# Altium integrated library Cypress Memory Static RAM.IntLib: 171 symbols (part 3 of 7)
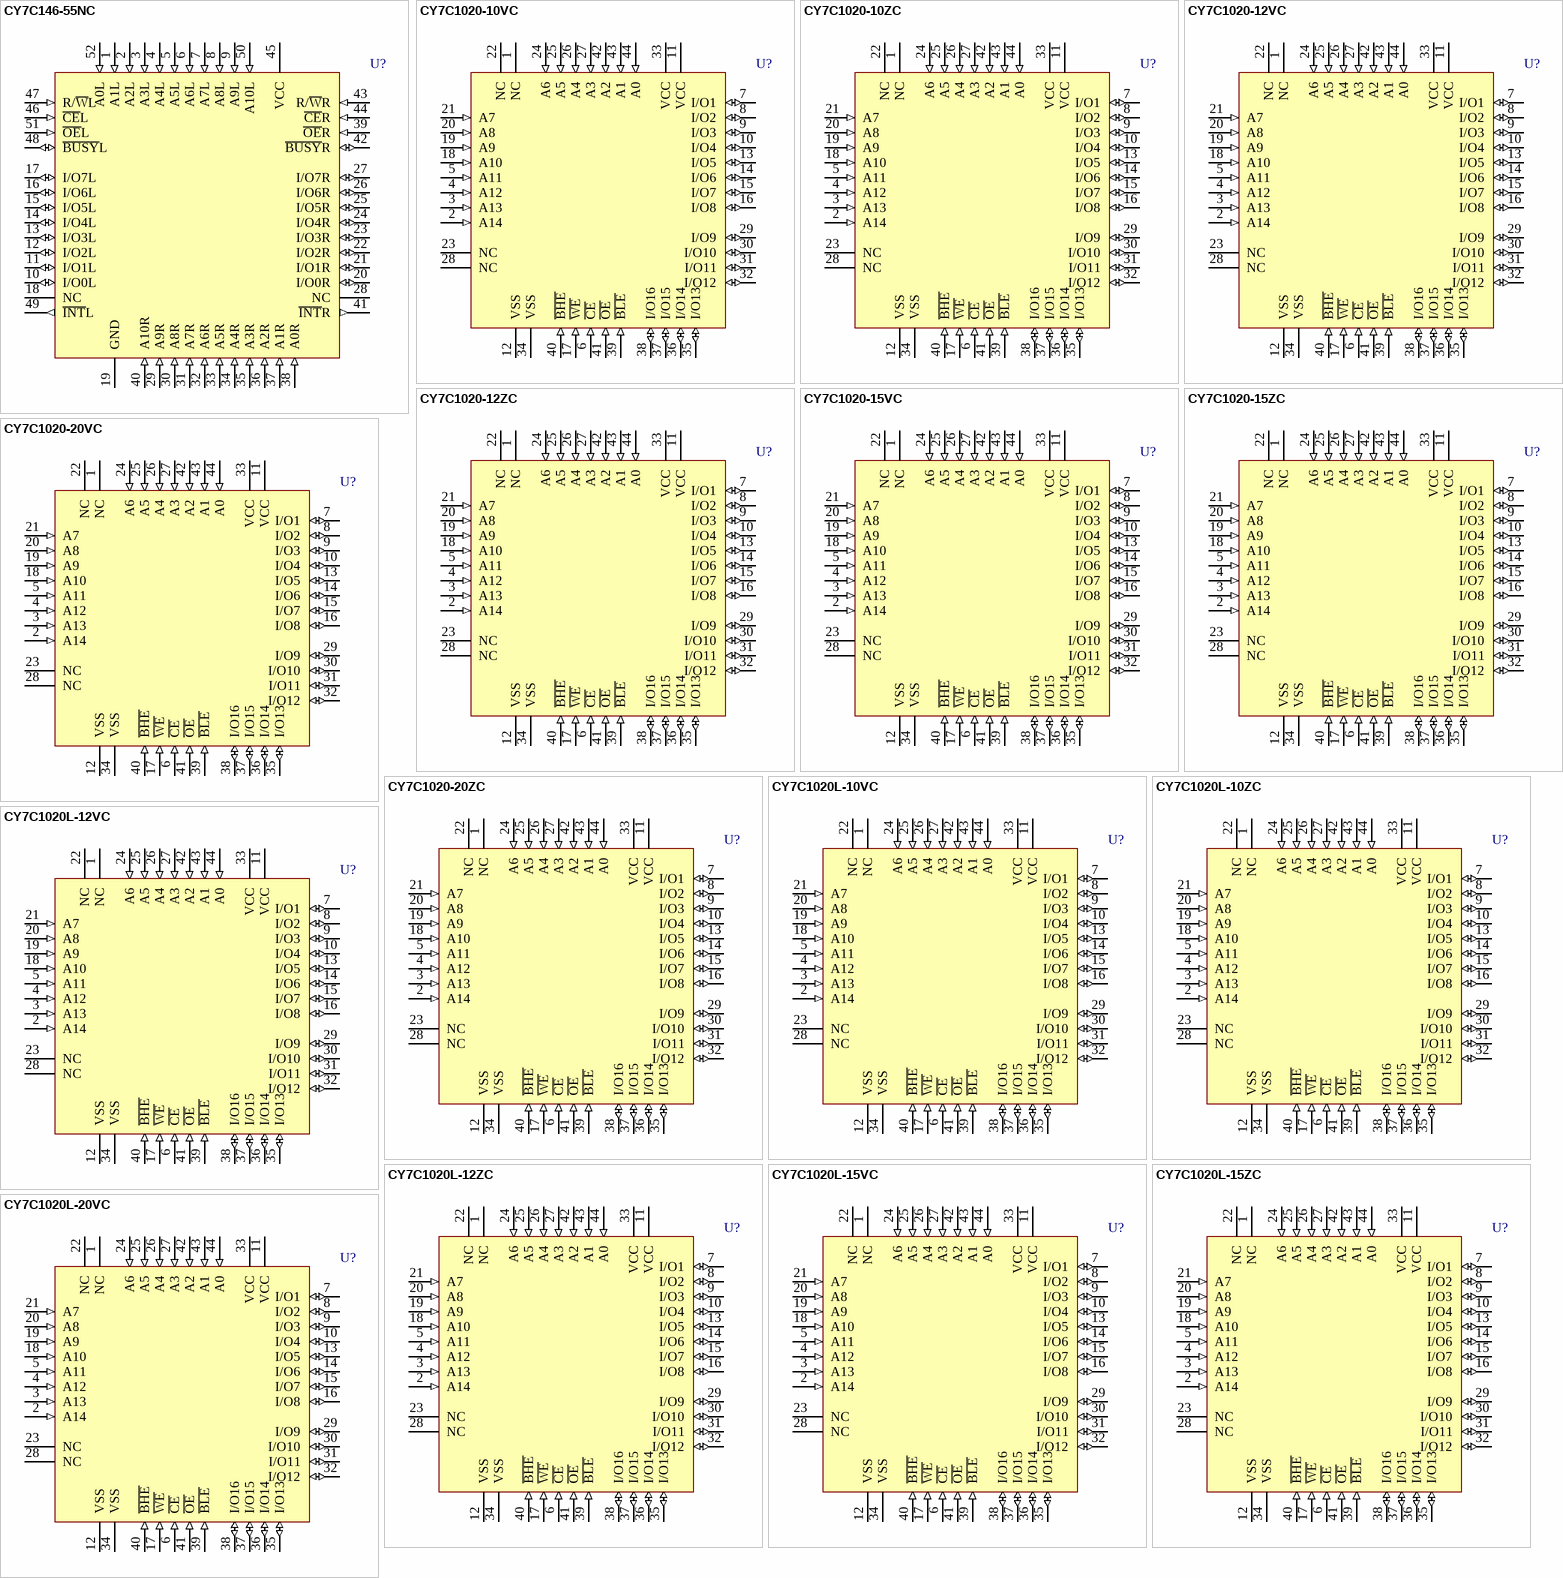
[diagram p27: symbols CY7C146-55NC to CY7C1020L-20VC]

## CY7C1020L-10ZC
designator U?
32K x 16 Static RAM; Published: 11-Dec-2002; LatestRevisionDate: 13-Apr-2006; LatestRevisionNote: IPC-7351 Footprint Added.; DatasheetVersion: 18-Oct-1999; PackageVersion: Oct-1999; PackageReference: Z44; Publisher: Altium Limited; PackageDescription: 44-Pin Small Outline Package 0.8 mm Pitch; ComponentLink1Description: Manufacturer Link; ComponentLink1URL: http://www.cypress.com/; ComponentLink2Description: Datasheet; ComponentLink2URL: http://www.cypress.com/portal/server.pt/gateway/PTARGS_0_2_1524_209_259_43/http%3B/sjapp20.mis.cypress.com%3B7001/publishedcontent/publish/design_resources/datasheets/contents/cy7c1020_5.pdf
footprint Z44_N (SOP, 44-Leads, Body 18.4x10.16mm, Pitch 0.8mm, IPC Medium Density)
footprint Z44_L (SOP, 44-Leads, Body 18.4x10.16mm, Pitch 0.8mm, IPC High Density)
footprint Z44_M (SOP, 44-Leads, Body 18.4x10.16mm, Pitch 0.8mm, IPC Low Density)
3D model Z44 (44-Pin Small Outline Package 0.8 mm Pitch)
pins: 1 NC, 2 A14 (in), 3 A13 (in), 4 A12 (in), 5 A11 (in), 6 ~{CE} (in), 7 I/O1 (io), 8 I/O2 (io), 9 I/O3 (io), 10 I/O4 (io), 11 VCC (power), 12 VSS (power), 13 I/O5 (io), 14 I/O6 (io), 15 I/O7 (io), 16 I/O8 (io), 17 ~{WE} (in), 18 A10 (in), 19 A9 (in), 20 A8 (in), 21 A7 (in), 22 NC, 23 NC, 24 A6 (in), 25 A5 (in), 26 A4 (in), 27 A3 (in), 28 NC, 29 I/O9 (io), 30 I/O10 (io), 31 I/O11 (io), 32 I/O12 (io), 33 VCC (power), 34 VSS (power), 35 I/O13 (io), 36 I/O14 (io), 37 I/O15 (io), 38 I/O16 (io), 39 ~{BLE} (in), 40 ~{BHE} (in), 41 ~{OE} (in), 42 A2 (in), 43 A1 (in), 44 A0 (in)

## CY7C1020L-12VC
designator U?
32K x 16 Static RAM; Published: 11-Dec-2002; LatestRevisionDate: 04-Mar-2005; LatestRevisionNote: Stylized 3D Model Added.; DatasheetVersion: 18-Oct-1999; PackageVersion: Oct-1999; PackageReference: V34; Publisher: Altium Limited; PackageDescription: SOJ, Molded; 44 Leads; Body Width 10.16 mm; Code_JEDEC: MS-027-AH; ComponentLink1Description: Manufacturer Link; ComponentLink1URL: http://www.cypress.com/; ComponentLink2Description: Datasheet; ComponentLink2URL: http://www.cypress.com/portal/server.pt/gateway/PTARGS_0_2_1524_209_259_43/http%3B/sjapp20.mis.cypress.com%3B7001/publishedcontent/publish/design_resources/datasheets/contents/cy7c1020_5.pdf
footprint V34 (SOJ, Molded; 44 Leads; Body Width 10.16 mm)
3D model V34 (SOJ, Molded; 44 Leads; Body Width 10.16 mm)
pins: 1 NC, 2 A14 (in), 3 A13 (in), 4 A12 (in), 5 A11 (in), 6 ~{CE} (in), 7 I/O1 (io), 8 I/O2 (io), 9 I/O3 (io), 10 I/O4 (io), 11 VCC (power), 12 VSS (power), 13 I/O5 (io), 14 I/O6 (io), 15 I/O7 (io), 16 I/O8 (io), 17 ~{WE} (in), 18 A10 (in), 19 A9 (in), 20 A8 (in), 21 A7 (in), 22 NC, 23 NC, 24 A6 (in), 25 A5 (in), 26 A4 (in), 27 A3 (in), 28 NC, 29 I/O9 (io), 30 I/O10 (io), 31 I/O11 (io), 32 I/O12 (io), 33 VCC (power), 34 VSS (power), 35 I/O13 (io), 36 I/O14 (io), 37 I/O15 (io), 38 I/O16 (io), 39 ~{BLE} (in), 40 ~{BHE} (in), 41 ~{OE} (in), 42 A2 (in), 43 A1 (in), 44 A0 (in)

## CY7C1020L-12ZC
designator U?
32K x 16 Static RAM; Published: 11-Dec-2002; LatestRevisionDate: 13-Apr-2006; LatestRevisionNote: IPC-7351 Footprint Added.; DatasheetVersion: 18-Oct-1999; PackageVersion: Oct-1999; PackageReference: Z44; Publisher: Altium Limited; PackageDescription: 44-Pin Small Outline Package 0.8 mm Pitch; ComponentLink1Description: Manufacturer Link; ComponentLink1URL: http://www.cypress.com/; ComponentLink2Description: Datasheet; ComponentLink2URL: http://www.cypress.com/portal/server.pt/gateway/PTARGS_0_2_1524_209_259_43/http%3B/sjapp20.mis.cypress.com%3B7001/publishedcontent/publish/design_resources/datasheets/contents/cy7c1020_5.pdf
footprint Z44_N (SOP, 44-Leads, Body 18.4x10.16mm, Pitch 0.8mm, IPC Medium Density)
footprint Z44_L (SOP, 44-Leads, Body 18.4x10.16mm, Pitch 0.8mm, IPC High Density)
footprint Z44_M (SOP, 44-Leads, Body 18.4x10.16mm, Pitch 0.8mm, IPC Low Density)
3D model Z44 (44-Pin Small Outline Package 0.8 mm Pitch)
pins: 1 NC, 2 A14 (in), 3 A13 (in), 4 A12 (in), 5 A11 (in), 6 ~{CE} (in), 7 I/O1 (io), 8 I/O2 (io), 9 I/O3 (io), 10 I/O4 (io), 11 VCC (power), 12 VSS (power), 13 I/O5 (io), 14 I/O6 (io), 15 I/O7 (io), 16 I/O8 (io), 17 ~{WE} (in), 18 A10 (in), 19 A9 (in), 20 A8 (in), 21 A7 (in), 22 NC, 23 NC, 24 A6 (in), 25 A5 (in), 26 A4 (in), 27 A3 (in), 28 NC, 29 I/O9 (io), 30 I/O10 (io), 31 I/O11 (io), 32 I/O12 (io), 33 VCC (power), 34 VSS (power), 35 I/O13 (io), 36 I/O14 (io), 37 I/O15 (io), 38 I/O16 (io), 39 ~{BLE} (in), 40 ~{BHE} (in), 41 ~{OE} (in), 42 A2 (in), 43 A1 (in), 44 A0 (in)

## CY7C1020L-15VC
designator U?
32K x 16 Static RAM; Published: 11-Dec-2002; LatestRevisionDate: 04-Mar-2005; LatestRevisionNote: Stylized 3D Model Added.; DatasheetVersion: 18-Oct-1999; PackageVersion: Oct-1999; PackageReference: V34; Publisher: Altium Limited; PackageDescription: SOJ, Molded; 44 Leads; Body Width 10.16 mm; Code_JEDEC: MS-027-AH; ComponentLink1Description: Manufacturer Link; ComponentLink1URL: http://www.cypress.com/; ComponentLink2Description: Datasheet; ComponentLink2URL: http://www.cypress.com/portal/server.pt/gateway/PTARGS_0_2_1524_209_259_43/http%3B/sjapp20.mis.cypress.com%3B7001/publishedcontent/publish/design_resources/datasheets/contents/cy7c1020_5.pdf
footprint V34 (SOJ, Molded; 44 Leads; Body Width 10.16 mm)
3D model V34 (SOJ, Molded; 44 Leads; Body Width 10.16 mm)
pins: 1 NC, 2 A14 (in), 3 A13 (in), 4 A12 (in), 5 A11 (in), 6 ~{CE} (in), 7 I/O1 (io), 8 I/O2 (io), 9 I/O3 (io), 10 I/O4 (io), 11 VCC (power), 12 VSS (power), 13 I/O5 (io), 14 I/O6 (io), 15 I/O7 (io), 16 I/O8 (io), 17 ~{WE} (in), 18 A10 (in), 19 A9 (in), 20 A8 (in), 21 A7 (in), 22 NC, 23 NC, 24 A6 (in), 25 A5 (in), 26 A4 (in), 27 A3 (in), 28 NC, 29 I/O9 (io), 30 I/O10 (io), 31 I/O11 (io), 32 I/O12 (io), 33 VCC (power), 34 VSS (power), 35 I/O13 (io), 36 I/O14 (io), 37 I/O15 (io), 38 I/O16 (io), 39 ~{BLE} (in), 40 ~{BHE} (in), 41 ~{OE} (in), 42 A2 (in), 43 A1 (in), 44 A0 (in)

## CY7C1020L-15ZC
designator U?
32K x 16 Static RAM; Published: 11-Dec-2002; LatestRevisionDate: 13-Apr-2006; LatestRevisionNote: IPC-7351 Footprint Added.; DatasheetVersion: 18-Oct-1999; PackageVersion: Oct-1999; PackageReference: Z44; Publisher: Altium Limited; PackageDescription: 44-Pin Small Outline Package 0.8 mm Pitch; ComponentLink1Description: Manufacturer Link; ComponentLink1URL: http://www.cypress.com/; ComponentLink2Description: Datasheet; ComponentLink2URL: http://www.cypress.com/portal/server.pt/gateway/PTARGS_0_2_1524_209_259_43/http%3B/sjapp20.mis.cypress.com%3B7001/publishedcontent/publish/design_resources/datasheets/contents/cy7c1020_5.pdf
footprint Z44_N (SOP, 44-Leads, Body 18.4x10.16mm, Pitch 0.8mm, IPC Medium Density)
footprint Z44_L (SOP, 44-Leads, Body 18.4x10.16mm, Pitch 0.8mm, IPC High Density)
footprint Z44_M (SOP, 44-Leads, Body 18.4x10.16mm, Pitch 0.8mm, IPC Low Density)
3D model Z44 (44-Pin Small Outline Package 0.8 mm Pitch)
pins: 1 NC, 2 A14 (in), 3 A13 (in), 4 A12 (in), 5 A11 (in), 6 ~{CE} (in), 7 I/O1 (io), 8 I/O2 (io), 9 I/O3 (io), 10 I/O4 (io), 11 VCC (power), 12 VSS (power), 13 I/O5 (io), 14 I/O6 (io), 15 I/O7 (io), 16 I/O8 (io), 17 ~{WE} (in), 18 A10 (in), 19 A9 (in), 20 A8 (in), 21 A7 (in), 22 NC, 23 NC, 24 A6 (in), 25 A5 (in), 26 A4 (in), 27 A3 (in), 28 NC, 29 I/O9 (io), 30 I/O10 (io), 31 I/O11 (io), 32 I/O12 (io), 33 VCC (power), 34 VSS (power), 35 I/O13 (io), 36 I/O14 (io), 37 I/O15 (io), 38 I/O16 (io), 39 ~{BLE} (in), 40 ~{BHE} (in), 41 ~{OE} (in), 42 A2 (in), 43 A1 (in), 44 A0 (in)

## CY7C1020L-20VC
designator U?
32K x 16 Static RAM; Published: 11-Dec-2002; LatestRevisionDate: 04-Mar-2005; LatestRevisionNote: Stylized 3D Model Added.; DatasheetVersion: 18-Oct-1999; PackageVersion: Oct-1999; PackageReference: V34; Publisher: Altium Limited; PackageDescription: SOJ, Molded; 44 Leads; Body Width 10.16 mm; Code_JEDEC: MS-027-AH; ComponentLink1Description: Manufacturer Link; ComponentLink1URL: http://www.cypress.com/; ComponentLink2Description: Datasheet; ComponentLink2URL: http://www.cypress.com/portal/server.pt/gateway/PTARGS_0_2_1524_209_259_43/http%3B/sjapp20.mis.cypress.com%3B7001/publishedcontent/publish/design_resources/datasheets/contents/cy7c1020_5.pdf
footprint V34 (SOJ, Molded; 44 Leads; Body Width 10.16 mm)
3D model V34 (SOJ, Molded; 44 Leads; Body Width 10.16 mm)
pins: 1 NC, 2 A14 (in), 3 A13 (in), 4 A12 (in), 5 A11 (in), 6 ~{CE} (in), 7 I/O1 (io), 8 I/O2 (io), 9 I/O3 (io), 10 I/O4 (io), 11 VCC (power), 12 VSS (power), 13 I/O5 (io), 14 I/O6 (io), 15 I/O7 (io), 16 I/O8 (io), 17 ~{WE} (in), 18 A10 (in), 19 A9 (in), 20 A8 (in), 21 A7 (in), 22 NC, 23 NC, 24 A6 (in), 25 A5 (in), 26 A4 (in), 27 A3 (in), 28 NC, 29 I/O9 (io), 30 I/O10 (io), 31 I/O11 (io), 32 I/O12 (io), 33 VCC (power), 34 VSS (power), 35 I/O13 (io), 36 I/O14 (io), 37 I/O15 (io), 38 I/O16 (io), 39 ~{BLE} (in), 40 ~{BHE} (in), 41 ~{OE} (in), 42 A2 (in), 43 A1 (in), 44 A0 (in)

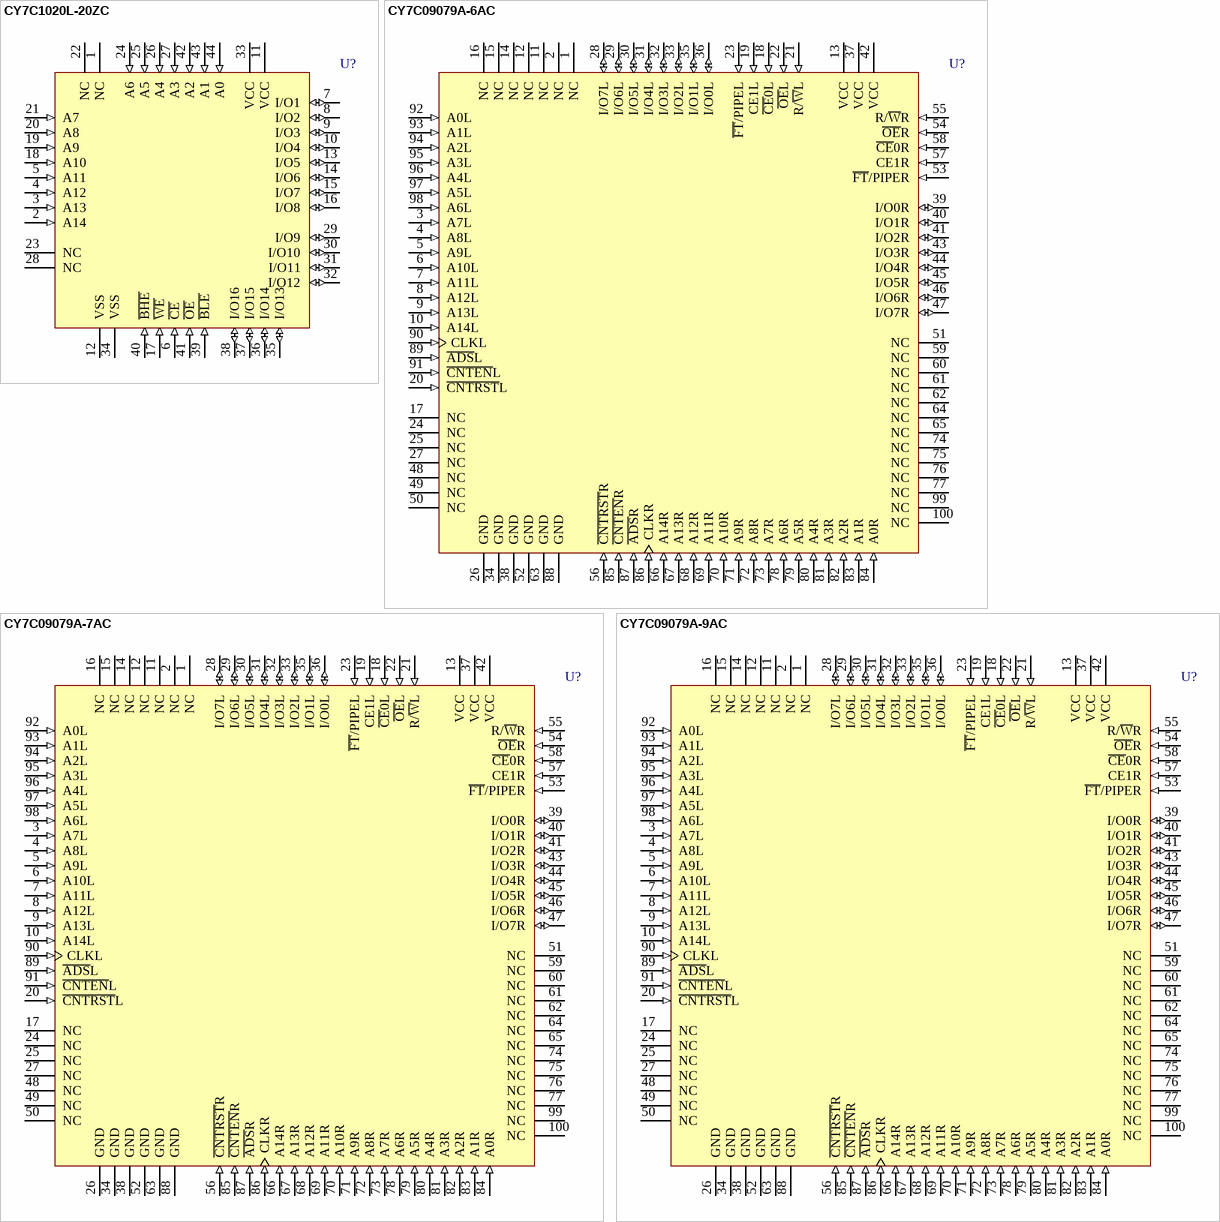
[diagram p7: symbols CY7C1020L-20ZC to CY7C09079A-9AC]

## CY7C1020L-20ZC
designator U?
32K x 16 Static RAM; Published: 11-Dec-2002; LatestRevisionDate: 13-Apr-2006; LatestRevisionNote: IPC-7351 Footprint Added.; DatasheetVersion: 18-Oct-1999; PackageVersion: Oct-1999; PackageReference: Z44; Publisher: Altium Limited; PackageDescription: 44-Pin Small Outline Package 0.8 mm Pitch; ComponentLink1Description: Manufacturer Link; ComponentLink1URL: http://www.cypress.com/; ComponentLink2Description: Datasheet; ComponentLink2URL: http://www.cypress.com/portal/server.pt/gateway/PTARGS_0_2_1524_209_259_43/http%3B/sjapp20.mis.cypress.com%3B7001/publishedcontent/publish/design_resources/datasheets/contents/cy7c1020_5.pdf
footprint Z44_N (SOP, 44-Leads, Body 18.4x10.16mm, Pitch 0.8mm, IPC Medium Density)
footprint Z44_L (SOP, 44-Leads, Body 18.4x10.16mm, Pitch 0.8mm, IPC High Density)
footprint Z44_M (SOP, 44-Leads, Body 18.4x10.16mm, Pitch 0.8mm, IPC Low Density)
3D model Z44 (44-Pin Small Outline Package 0.8 mm Pitch)
pins: 1 NC, 2 A14 (in), 3 A13 (in), 4 A12 (in), 5 A11 (in), 6 ~{CE} (in), 7 I/O1 (io), 8 I/O2 (io), 9 I/O3 (io), 10 I/O4 (io), 11 VCC (power), 12 VSS (power), 13 I/O5 (io), 14 I/O6 (io), 15 I/O7 (io), 16 I/O8 (io), 17 ~{WE} (in), 18 A10 (in), 19 A9 (in), 20 A8 (in), 21 A7 (in), 22 NC, 23 NC, 24 A6 (in), 25 A5 (in), 26 A4 (in), 27 A3 (in), 28 NC, 29 I/O9 (io), 30 I/O10 (io), 31 I/O11 (io), 32 I/O12 (io), 33 VCC (power), 34 VSS (power), 35 I/O13 (io), 36 I/O14 (io), 37 I/O15 (io), 38 I/O16 (io), 39 ~{BLE} (in), 40 ~{BHE} (in), 41 ~{OE} (in), 42 A2 (in), 43 A1 (in), 44 A0 (in)

## CY7C09079A-6AC
designator U?
32K x 8 Synchronous Dual-Port RAM; Published: 11-Dec-2002; LatestRevisionDate: 13-Apr-2006; LatestRevisionNote: IPC-7351 Footprint Added.; DatasheetVersion: 3-Mar-2000; PackageVersion: Mar-2001; PackageReference: A100; Publisher: Altium Limited; PackageDescription: 100-Pin Thin Quad Flat Pack 0.5 mm Pitch; ComponentLink1Description: Manufacturer Link; ComponentLink1URL: http://www.cypress.com/; ComponentLink2Description: Datasheet; ComponentLink2URL: http://www.cypress.com/portal/server.pt/gateway/PTARGS_0_2_1524_209_259_43/http%3B/sjapp20.mis.cypress.com%3B7001/publishedcontent/publish/design_resources/datasheets/contents/cy7c09269a_5.pdf
footprint A100_N (Thin QFP, 100-Leads, Body 14x14mm, Pitch 0.5mm, IPC Medium Density)
footprint A100_L (Thin QFP, 100-Leads, Body 14x14mm, Pitch 0.5mm, IPC High Density)
footprint A100_M (Thin QFP, 100-Leads, Body 14x14mm, Pitch 0.5mm, IPC Low Density)
3D model CY7C09079A-A100 (100-Pin Thin Quad Flat Pack 0.5 mm Pitch)
pins: 1 NC, 2 NC, 3 A7L (in), 4 A8L (in), 5 A9L (in), 6 A10L (in), 7 A11L (in), 8 A12L (in), 9 A13L (in), 10 A14L (in), 11 NC, 12 NC, 13 VCC (power), 14 NC, 15 NC, 16 NC, 17 NC, 18 ~{CE}0L (in), 19 CE1L (in), 20 ~{CNTRST}L (in), 21 R/~{W}L (in), 22 ~{OE}L (in), 23 ~{FT}/PIPEL (in), 24 NC, 25 NC, 26 GND (power), 27 NC, 28 I/O7L (io), 29 I/O6L (io), 30 I/O5L (io), 31 I/O4L (io), 32 I/O3L (io), 33 I/O2L (io), 34 GND (power), 35 I/O1L (io), 36 I/O0L (io), 37 VCC (power), 38 GND (power), 39 I/O0R (io), 40 I/O1R (io), 41 I/O2R (io), 42 VCC (power), 43 I/O3R (io), 44 I/O4R (io), 45 I/O5R (io), 46 I/O6R (io), 47 I/O7R (io), 48 NC, 49 NC, 50 NC, 51 NC, 52 GND (power), 53 ~{FT}/PIPER (in), 54 ~{OE}R (in), 55 R/~{W}R (in), 56 ~{CNTRST}R (in), 57 CE1R (in), 58 ~{CE}0R (in), 59 NC, 60 NC, 61 NC, 62 NC, 63 GND (power), 64 NC, 65 NC, 66 A14R (in), 67 A13R (in), 68 A12R (in), 69 A11R (in), 70 A10R (in), 71 A9R (in), 72 A8R (in), 73 A7R (in), 74 NC, 75 NC, 76 NC, 77 NC, 78 A6R (in), 79 A5R (in), 80 A4R (in), 81 A3R (in), 82 A2R (in), 83 A1R (in), 84 A0R (in), 85 ~{CNTEN}R (in), 86 CLKR (in), 87 ~{ADS}R (in), 88 GND (power), 89 ~{ADS}L (in), 90 CLKL (in), 91 ~{CNTEN}L (in), 92 A0L (in), 93 A1L (in), 94 A2L (in), 95 A3L (in), 96 A4L (in), 97 A5L (in), 98 A6L (in), 99 NC, 100 NC

## CY7C09079A-7AC
designator U?
32K x 8 Synchronous Dual-Port RAM; Published: 11-Dec-2002; LatestRevisionDate: 13-Apr-2006; LatestRevisionNote: IPC-7351 Footprint Added.; DatasheetVersion: 3-Mar-2000; PackageVersion: Mar-2001; PackageReference: A100; Publisher: Altium Limited; PackageDescription: 100-Pin Thin Quad Flat Pack 0.5 mm Pitch; ComponentLink1Description: Manufacturer Link; ComponentLink1URL: http://www.cypress.com/; ComponentLink2Description: Datasheet; ComponentLink2URL: http://www.cypress.com/portal/server.pt/gateway/PTARGS_0_2_1524_209_259_43/http%3B/sjapp20.mis.cypress.com%3B7001/publishedcontent/publish/design_resources/datasheets/contents/cy7c09269a_5.pdf
footprint A100_N (Thin QFP, 100-Leads, Body 14x14mm, Pitch 0.5mm, IPC Medium Density)
footprint A100_L (Thin QFP, 100-Leads, Body 14x14mm, Pitch 0.5mm, IPC High Density)
footprint A100_M (Thin QFP, 100-Leads, Body 14x14mm, Pitch 0.5mm, IPC Low Density)
3D model CY7C09079A-A100 (100-Pin Thin Quad Flat Pack 0.5 mm Pitch)
pins: 1 NC, 2 NC, 3 A7L (in), 4 A8L (in), 5 A9L (in), 6 A10L (in), 7 A11L (in), 8 A12L (in), 9 A13L (in), 10 A14L (in), 11 NC, 12 NC, 13 VCC (power), 14 NC, 15 NC, 16 NC, 17 NC, 18 ~{CE}0L (in), 19 CE1L (in), 20 ~{CNTRST}L (in), 21 R/~{W}L (in), 22 ~{OE}L (in), 23 ~{FT}/PIPEL (in), 24 NC, 25 NC, 26 GND (power), 27 NC, 28 I/O7L (io), 29 I/O6L (io), 30 I/O5L (io), 31 I/O4L (io), 32 I/O3L (io), 33 I/O2L (io), 34 GND (power), 35 I/O1L (io), 36 I/O0L (io), 37 VCC (power), 38 GND (power), 39 I/O0R (io), 40 I/O1R (io), 41 I/O2R (io), 42 VCC (power), 43 I/O3R (io), 44 I/O4R (io), 45 I/O5R (io), 46 I/O6R (io), 47 I/O7R (io), 48 NC, 49 NC, 50 NC, 51 NC, 52 GND (power), 53 ~{FT}/PIPER (in), 54 ~{OE}R (in), 55 R/~{W}R (in), 56 ~{CNTRST}R (in), 57 CE1R (in), 58 ~{CE}0R (in), 59 NC, 60 NC, 61 NC, 62 NC, 63 GND (power), 64 NC, 65 NC, 66 A14R (in), 67 A13R (in), 68 A12R (in), 69 A11R (in), 70 A10R (in), 71 A9R (in), 72 A8R (in), 73 A7R (in), 74 NC, 75 NC, 76 NC, 77 NC, 78 A6R (in), 79 A5R (in), 80 A4R (in), 81 A3R (in), 82 A2R (in), 83 A1R (in), 84 A0R (in), 85 ~{CNTEN}R (in), 86 CLKR (in), 87 ~{ADS}R (in), 88 GND (power), 89 ~{ADS}L (in), 90 CLKL (in), 91 ~{CNTEN}L (in), 92 A0L (in), 93 A1L (in), 94 A2L (in), 95 A3L (in), 96 A4L (in), 97 A5L (in), 98 A6L (in), 99 NC, 100 NC

## CY7C09079A-9AC
designator U?
32K x 8 Synchronous Dual-Port RAM; Published: 11-Dec-2002; LatestRevisionDate: 13-Apr-2006; LatestRevisionNote: IPC-7351 Footprint Added.; DatasheetVersion: 3-Mar-2000; PackageVersion: Mar-2001; PackageReference: A100; Publisher: Altium Limited; PackageDescription: 100-Pin Thin Quad Flat Pack 0.5 mm Pitch; ComponentLink1Description: Manufacturer Link; ComponentLink1URL: http://www.cypress.com/; ComponentLink2Description: Datasheet; ComponentLink2URL: http://www.cypress.com/portal/server.pt/gateway/PTARGS_0_2_1524_209_259_43/http%3B/sjapp20.mis.cypress.com%3B7001/publishedcontent/publish/design_resources/datasheets/contents/cy7c09269a_5.pdf
footprint A100_N (Thin QFP, 100-Leads, Body 14x14mm, Pitch 0.5mm, IPC Medium Density)
footprint A100_L (Thin QFP, 100-Leads, Body 14x14mm, Pitch 0.5mm, IPC High Density)
footprint A100_M (Thin QFP, 100-Leads, Body 14x14mm, Pitch 0.5mm, IPC Low Density)
3D model CY7C09079A-A100 (100-Pin Thin Quad Flat Pack 0.5 mm Pitch)
pins: 1 NC, 2 NC, 3 A7L (in), 4 A8L (in), 5 A9L (in), 6 A10L (in), 7 A11L (in), 8 A12L (in), 9 A13L (in), 10 A14L (in), 11 NC, 12 NC, 13 VCC (power), 14 NC, 15 NC, 16 NC, 17 NC, 18 ~{CE}0L (in), 19 CE1L (in), 20 ~{CNTRST}L (in), 21 R/~{W}L (in), 22 ~{OE}L (in), 23 ~{FT}/PIPEL (in), 24 NC, 25 NC, 26 GND (power), 27 NC, 28 I/O7L (io), 29 I/O6L (io), 30 I/O5L (io), 31 I/O4L (io), 32 I/O3L (io), 33 I/O2L (io), 34 GND (power), 35 I/O1L (io), 36 I/O0L (io), 37 VCC (power), 38 GND (power), 39 I/O0R (io), 40 I/O1R (io), 41 I/O2R (io), 42 VCC (power), 43 I/O3R (io), 44 I/O4R (io), 45 I/O5R (io), 46 I/O6R (io), 47 I/O7R (io), 48 NC, 49 NC, 50 NC, 51 NC, 52 GND (power), 53 ~{FT}/PIPER (in), 54 ~{OE}R (in), 55 R/~{W}R (in), 56 ~{CNTRST}R (in), 57 CE1R (in), 58 ~{CE}0R (in), 59 NC, 60 NC, 61 NC, 62 NC, 63 GND (power), 64 NC, 65 NC, 66 A14R (in), 67 A13R (in), 68 A12R (in), 69 A11R (in), 70 A10R (in), 71 A9R (in), 72 A8R (in), 73 A7R (in), 74 NC, 75 NC, 76 NC, 77 NC, 78 A6R (in), 79 A5R (in), 80 A4R (in), 81 A3R (in), 82 A2R (in), 83 A1R (in), 84 A0R (in), 85 ~{CNTEN}R (in), 86 CLKR (in), 87 ~{ADS}R (in), 88 GND (power), 89 ~{ADS}L (in), 90 CLKL (in), 91 ~{CNTEN}L (in), 92 A0L (in), 93 A1L (in), 94 A2L (in), 95 A3L (in), 96 A4L (in), 97 A5L (in), 98 A6L (in), 99 NC, 100 NC

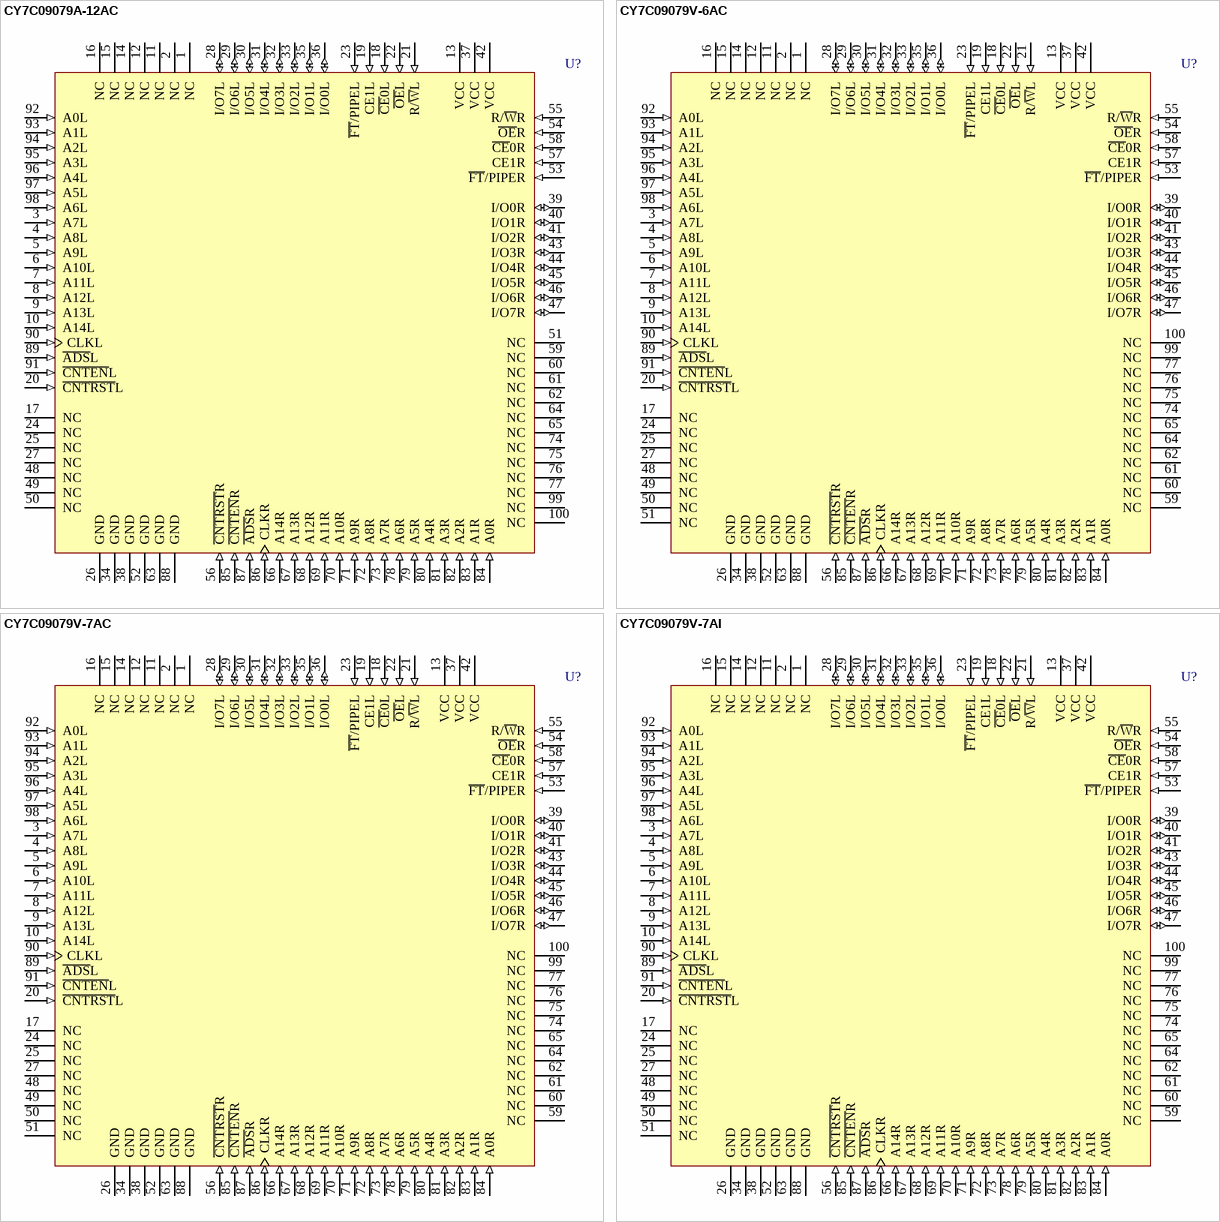
[diagram p8: symbols CY7C09079A-12AC to CY7C09079V-7AI]

## CY7C09079A-12AC
designator U?
32K x 8 Synchronous Dual-Port RAM; Published: 11-Dec-2002; LatestRevisionDate: 13-Apr-2006; LatestRevisionNote: IPC-7351 Footprint Added.; DatasheetVersion: 3-Mar-2000; PackageVersion: Mar-2001; PackageReference: A100; Publisher: Altium Limited; PackageDescription: 100-Pin Thin Quad Flat Pack 0.5 mm Pitch; ComponentLink1Description: Manufacturer Link; ComponentLink1URL: http://www.cypress.com/; ComponentLink2Description: Datasheet; ComponentLink2URL: http://www.cypress.com/portal/server.pt/gateway/PTARGS_0_2_1524_209_259_43/http%3B/sjapp20.mis.cypress.com%3B7001/publishedcontent/publish/design_resources/datasheets/contents/cy7c09269a_5.pdf
footprint A100_N (Thin QFP, 100-Leads, Body 14x14mm, Pitch 0.5mm, IPC Medium Density)
footprint A100_L (Thin QFP, 100-Leads, Body 14x14mm, Pitch 0.5mm, IPC High Density)
footprint A100_M (Thin QFP, 100-Leads, Body 14x14mm, Pitch 0.5mm, IPC Low Density)
3D model CY7C09079A-A100 (100-Pin Thin Quad Flat Pack 0.5 mm Pitch)
pins: 1 NC, 2 NC, 3 A7L (in), 4 A8L (in), 5 A9L (in), 6 A10L (in), 7 A11L (in), 8 A12L (in), 9 A13L (in), 10 A14L (in), 11 NC, 12 NC, 13 VCC (power), 14 NC, 15 NC, 16 NC, 17 NC, 18 ~{CE}0L (in), 19 CE1L (in), 20 ~{CNTRST}L (in), 21 R/~{W}L (in), 22 ~{OE}L (in), 23 ~{FT}/PIPEL (in), 24 NC, 25 NC, 26 GND (power), 27 NC, 28 I/O7L (io), 29 I/O6L (io), 30 I/O5L (io), 31 I/O4L (io), 32 I/O3L (io), 33 I/O2L (io), 34 GND (power), 35 I/O1L (io), 36 I/O0L (io), 37 VCC (power), 38 GND (power), 39 I/O0R (io), 40 I/O1R (io), 41 I/O2R (io), 42 VCC (power), 43 I/O3R (io), 44 I/O4R (io), 45 I/O5R (io), 46 I/O6R (io), 47 I/O7R (io), 48 NC, 49 NC, 50 NC, 51 NC, 52 GND (power), 53 ~{FT}/PIPER (in), 54 ~{OE}R (in), 55 R/~{W}R (in), 56 ~{CNTRST}R (in), 57 CE1R (in), 58 ~{CE}0R (in), 59 NC, 60 NC, 61 NC, 62 NC, 63 GND (power), 64 NC, 65 NC, 66 A14R (in), 67 A13R (in), 68 A12R (in), 69 A11R (in), 70 A10R (in), 71 A9R (in), 72 A8R (in), 73 A7R (in), 74 NC, 75 NC, 76 NC, 77 NC, 78 A6R (in), 79 A5R (in), 80 A4R (in), 81 A3R (in), 82 A2R (in), 83 A1R (in), 84 A0R (in), 85 ~{CNTEN}R (in), 86 CLKR (in), 87 ~{ADS}R (in), 88 GND (power), 89 ~{ADS}L (in), 90 CLKL (in), 91 ~{CNTEN}L (in), 92 A0L (in), 93 A1L (in), 94 A2L (in), 95 A3L (in), 96 A4L (in), 97 A5L (in), 98 A6L (in), 99 NC, 100 NC

## CY7C09079V-6AC
designator U?
3.3V 32K x 8 Synchronous Dual-Port Static RAM; Published: 11-Dec-2002; LatestRevisionDate: 13-Apr-2006; LatestRevisionNote: IPC-7351 Footprint Added.; DatasheetVersion: 2-Feb-2001; PackageVersion: Mar-2001; PackageReference: A100; Publisher: Altium Limited; PackageDescription: 100-Pin Thin Quad Flat Pack 0.5 mm Pitch; ComponentLink1Description: Manufacturer Link; ComponentLink1URL: http://www.cypress.com/; ComponentLink2Description: Datasheet; ComponentLink2URL: http://www.cypress.com/portal/server.pt/gateway/PTARGS_0_2_1524_209_259_43/http%3B/sjapp20.mis.cypress.com%3B7001/publishedcontent/publish/design_resources/datasheets/contents/cy7c09079v_5.pdf
footprint A100_N (Thin QFP, 100-Leads, Body 14x14mm, Pitch 0.5mm, IPC Medium Density)
footprint A100_L (Thin QFP, 100-Leads, Body 14x14mm, Pitch 0.5mm, IPC High Density)
footprint A100_M (Thin QFP, 100-Leads, Body 14x14mm, Pitch 0.5mm, IPC Low Density)
3D model CY7C09079V-A100 (100-Pin Thin Quad Flat Pack 0.5 mm Pitch)
pins: 1 NC, 2 NC, 3 A7L (in), 4 A8L (in), 5 A9L (in), 6 A10L (in), 7 A11L (in), 8 A12L (in), 9 A13L (in), 10 A14L (in), 11 NC, 12 NC, 13 VCC (power), 14 NC, 15 NC, 16 NC, 17 NC, 18 ~{CE}0L (in), 19 CE1L (in), 20 ~{CNTRST}L (in), 21 R/~{W}L (in), 22 ~{OE}L (in), 23 ~{FT}/PIPEL (in), 24 NC, 25 NC, 26 GND (power), 27 NC, 28 I/O7L (io), 29 I/O6L (io), 30 I/O5L (io), 31 I/O4L (io), 32 I/O3L (io), 33 I/O2L (io), 34 GND (power), 35 I/O1L (io), 36 I/O0L (io), 37 VCC (power), 38 GND (power), 39 I/O0R (io), 40 I/O1R (io), 41 I/O2R (io), 42 VCC (power), 43 I/O3R (io), 44 I/O4R (io), 45 I/O5R (io), 46 I/O6R (io), 47 I/O7R (io), 48 NC, 49 NC, 50 NC, 51 NC, 52 GND (power), 53 ~{FT}/PIPER (in), 54 ~{OE}R (in), 55 R/~{W}R (in), 56 ~{CNTRST}R (in), 57 CE1R (in), 58 ~{CE}0R (in), 59 NC, 60 NC, 61 NC, 62 NC, 63 GND (power), 64 NC, 65 NC, 66 A14R (in), 67 A13R (in), 68 A12R (in), 69 A11R (in), 70 A10R (in), 71 A9R (in), 72 A8R (in), 73 A7R (in), 74 NC, 75 NC, 76 NC, 77 NC, 78 A6R (in), 79 A5R (in), 80 A4R (in), 81 A3R (in), 82 A2R (in), 83 A1R (in), 84 A0R (in), 85 ~{CNTEN}R (in), 86 CLKR (in), 87 ~{ADS}R (in), 88 GND (power), 89 ~{ADS}L (in), 90 CLKL (in), 91 ~{CNTEN}L (in), 92 A0L (in), 93 A1L (in), 94 A2L (in), 95 A3L (in), 96 A4L (in), 97 A5L (in), 98 A6L (in), 99 NC, 100 NC

## CY7C09079V-7AC
designator U?
3.3V 32K x 8 Synchronous Dual-Port Static RAM; Published: 11-Dec-2002; LatestRevisionDate: 13-Apr-2006; LatestRevisionNote: IPC-7351 Footprint Added.; DatasheetVersion: 2-Feb-2001; PackageVersion: Mar-2001; PackageReference: A100; Publisher: Altium Limited; PackageDescription: 100-Pin Thin Quad Flat Pack 0.5 mm Pitch; ComponentLink1Description: Manufacturer Link; ComponentLink1URL: http://www.cypress.com/; ComponentLink2Description: Datasheet; ComponentLink2URL: http://www.cypress.com/portal/server.pt/gateway/PTARGS_0_2_1524_209_259_43/http%3B/sjapp20.mis.cypress.com%3B7001/publishedcontent/publish/design_resources/datasheets/contents/cy7c09079v_5.pdf
footprint A100_N (Thin QFP, 100-Leads, Body 14x14mm, Pitch 0.5mm, IPC Medium Density)
footprint A100_L (Thin QFP, 100-Leads, Body 14x14mm, Pitch 0.5mm, IPC High Density)
footprint A100_M (Thin QFP, 100-Leads, Body 14x14mm, Pitch 0.5mm, IPC Low Density)
3D model CY7C09079V-A100 (100-Pin Thin Quad Flat Pack 0.5 mm Pitch)
pins: 1 NC, 2 NC, 3 A7L (in), 4 A8L (in), 5 A9L (in), 6 A10L (in), 7 A11L (in), 8 A12L (in), 9 A13L (in), 10 A14L (in), 11 NC, 12 NC, 13 VCC (power), 14 NC, 15 NC, 16 NC, 17 NC, 18 ~{CE}0L (in), 19 CE1L (in), 20 ~{CNTRST}L (in), 21 R/~{W}L (in), 22 ~{OE}L (in), 23 ~{FT}/PIPEL (in), 24 NC, 25 NC, 26 GND (power), 27 NC, 28 I/O7L (io), 29 I/O6L (io), 30 I/O5L (io), 31 I/O4L (io), 32 I/O3L (io), 33 I/O2L (io), 34 GND (power), 35 I/O1L (io), 36 I/O0L (io), 37 VCC (power), 38 GND (power), 39 I/O0R (io), 40 I/O1R (io), 41 I/O2R (io), 42 VCC (power), 43 I/O3R (io), 44 I/O4R (io), 45 I/O5R (io), 46 I/O6R (io), 47 I/O7R (io), 48 NC, 49 NC, 50 NC, 51 NC, 52 GND (power), 53 ~{FT}/PIPER (in), 54 ~{OE}R (in), 55 R/~{W}R (in), 56 ~{CNTRST}R (in), 57 CE1R (in), 58 ~{CE}0R (in), 59 NC, 60 NC, 61 NC, 62 NC, 63 GND (power), 64 NC, 65 NC, 66 A14R (in), 67 A13R (in), 68 A12R (in), 69 A11R (in), 70 A10R (in), 71 A9R (in), 72 A8R (in), 73 A7R (in), 74 NC, 75 NC, 76 NC, 77 NC, 78 A6R (in), 79 A5R (in), 80 A4R (in), 81 A3R (in), 82 A2R (in), 83 A1R (in), 84 A0R (in), 85 ~{CNTEN}R (in), 86 CLKR (in), 87 ~{ADS}R (in), 88 GND (power), 89 ~{ADS}L (in), 90 CLKL (in), 91 ~{CNTEN}L (in), 92 A0L (in), 93 A1L (in), 94 A2L (in), 95 A3L (in), 96 A4L (in), 97 A5L (in), 98 A6L (in), 99 NC, 100 NC

## CY7C09079V-7AI
designator U?
3.3V 32K x 8 Synchronous Dual-Port Static RAM; Published: 11-Dec-2002; LatestRevisionDate: 13-Apr-2006; LatestRevisionNote: IPC-7351 Footprint Added.; DatasheetVersion: 2-Feb-2001; PackageVersion: Mar-2001; PackageReference: A100; Publisher: Altium Limited; PackageDescription: 100-Pin Thin Quad Flat Pack 0.5 mm Pitch; ComponentLink1Description: Manufacturer Link; ComponentLink1URL: http://www.cypress.com/; ComponentLink2Description: Datasheet; ComponentLink2URL: http://www.cypress.com/portal/server.pt/gateway/PTARGS_0_2_1524_209_259_43/http%3B/sjapp20.mis.cypress.com%3B7001/publishedcontent/publish/design_resources/datasheets/contents/cy7c09079v_5.pdf
footprint A100_N (Thin QFP, 100-Leads, Body 14x14mm, Pitch 0.5mm, IPC Medium Density)
footprint A100_L (Thin QFP, 100-Leads, Body 14x14mm, Pitch 0.5mm, IPC High Density)
footprint A100_M (Thin QFP, 100-Leads, Body 14x14mm, Pitch 0.5mm, IPC Low Density)
3D model CY7C09079V-A100 (100-Pin Thin Quad Flat Pack 0.5 mm Pitch)
pins: 1 NC, 2 NC, 3 A7L (in), 4 A8L (in), 5 A9L (in), 6 A10L (in), 7 A11L (in), 8 A12L (in), 9 A13L (in), 10 A14L (in), 11 NC, 12 NC, 13 VCC (power), 14 NC, 15 NC, 16 NC, 17 NC, 18 ~{CE}0L (in), 19 CE1L (in), 20 ~{CNTRST}L (in), 21 R/~{W}L (in), 22 ~{OE}L (in), 23 ~{FT}/PIPEL (in), 24 NC, 25 NC, 26 GND (power), 27 NC, 28 I/O7L (io), 29 I/O6L (io), 30 I/O5L (io), 31 I/O4L (io), 32 I/O3L (io), 33 I/O2L (io), 34 GND (power), 35 I/O1L (io), 36 I/O0L (io), 37 VCC (power), 38 GND (power), 39 I/O0R (io), 40 I/O1R (io), 41 I/O2R (io), 42 VCC (power), 43 I/O3R (io), 44 I/O4R (io), 45 I/O5R (io), 46 I/O6R (io), 47 I/O7R (io), 48 NC, 49 NC, 50 NC, 51 NC, 52 GND (power), 53 ~{FT}/PIPER (in), 54 ~{OE}R (in), 55 R/~{W}R (in), 56 ~{CNTRST}R (in), 57 CE1R (in), 58 ~{CE}0R (in), 59 NC, 60 NC, 61 NC, 62 NC, 63 GND (power), 64 NC, 65 NC, 66 A14R (in), 67 A13R (in), 68 A12R (in), 69 A11R (in), 70 A10R (in), 71 A9R (in), 72 A8R (in), 73 A7R (in), 74 NC, 75 NC, 76 NC, 77 NC, 78 A6R (in), 79 A5R (in), 80 A4R (in), 81 A3R (in), 82 A2R (in), 83 A1R (in), 84 A0R (in), 85 ~{CNTEN}R (in), 86 CLKR (in), 87 ~{ADS}R (in), 88 GND (power), 89 ~{ADS}L (in), 90 CLKL (in), 91 ~{CNTEN}L (in), 92 A0L (in), 93 A1L (in), 94 A2L (in), 95 A3L (in), 96 A4L (in), 97 A5L (in), 98 A6L (in), 99 NC, 100 NC

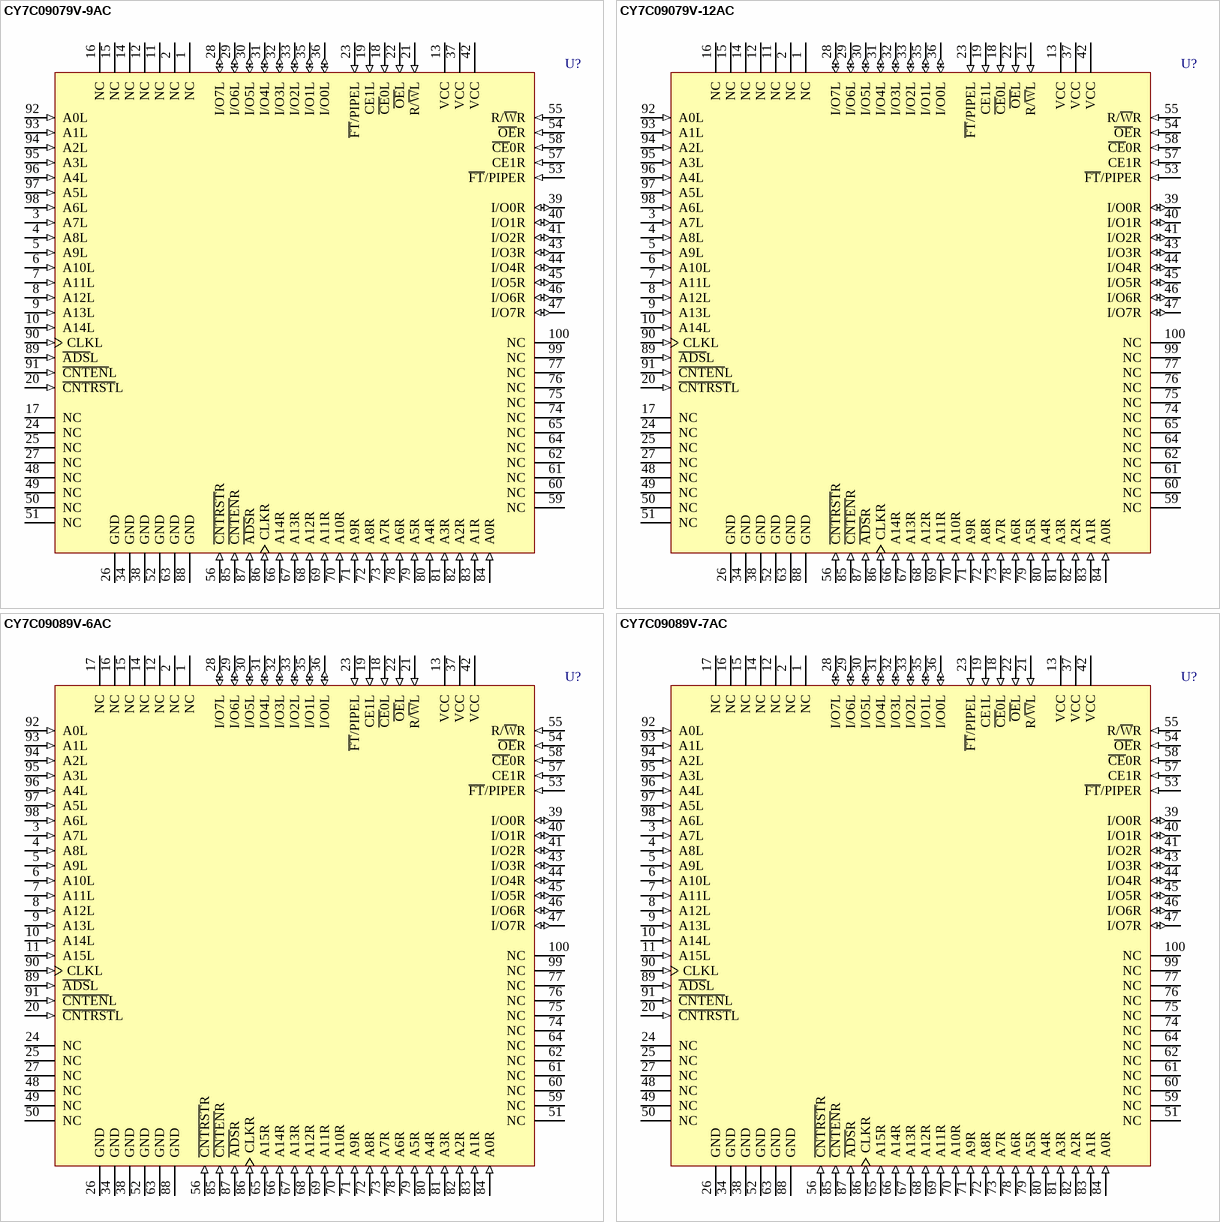
[diagram p9: symbols CY7C09079V-9AC to CY7C09089V-7AC]

## CY7C09079V-9AC
designator U?
3.3V 32K x 8 Synchronous Dual-Port Static RAM; Published: 11-Dec-2002; LatestRevisionDate: 13-Apr-2006; LatestRevisionNote: IPC-7351 Footprint Added.; DatasheetVersion: 2-Feb-2001; PackageVersion: Mar-2001; PackageReference: A100; Publisher: Altium Limited; PackageDescription: 100-Pin Thin Quad Flat Pack 0.5 mm Pitch; ComponentLink1Description: Manufacturer Link; ComponentLink1URL: http://www.cypress.com/; ComponentLink2Description: Datasheet; ComponentLink2URL: http://www.cypress.com/portal/server.pt/gateway/PTARGS_0_2_1524_209_259_43/http%3B/sjapp20.mis.cypress.com%3B7001/publishedcontent/publish/design_resources/datasheets/contents/cy7c09079v_5.pdf
footprint A100_N (Thin QFP, 100-Leads, Body 14x14mm, Pitch 0.5mm, IPC Medium Density)
footprint A100_L (Thin QFP, 100-Leads, Body 14x14mm, Pitch 0.5mm, IPC High Density)
footprint A100_M (Thin QFP, 100-Leads, Body 14x14mm, Pitch 0.5mm, IPC Low Density)
3D model CY7C09079V-A100 (100-Pin Thin Quad Flat Pack 0.5 mm Pitch)
pins: 1 NC, 2 NC, 3 A7L (in), 4 A8L (in), 5 A9L (in), 6 A10L (in), 7 A11L (in), 8 A12L (in), 9 A13L (in), 10 A14L (in), 11 NC, 12 NC, 13 VCC (power), 14 NC, 15 NC, 16 NC, 17 NC, 18 ~{CE}0L (in), 19 CE1L (in), 20 ~{CNTRST}L (in), 21 R/~{W}L (in), 22 ~{OE}L (in), 23 ~{FT}/PIPEL (in), 24 NC, 25 NC, 26 GND (power), 27 NC, 28 I/O7L (io), 29 I/O6L (io), 30 I/O5L (io), 31 I/O4L (io), 32 I/O3L (io), 33 I/O2L (io), 34 GND (power), 35 I/O1L (io), 36 I/O0L (io), 37 VCC (power), 38 GND (power), 39 I/O0R (io), 40 I/O1R (io), 41 I/O2R (io), 42 VCC (power), 43 I/O3R (io), 44 I/O4R (io), 45 I/O5R (io), 46 I/O6R (io), 47 I/O7R (io), 48 NC, 49 NC, 50 NC, 51 NC, 52 GND (power), 53 ~{FT}/PIPER (in), 54 ~{OE}R (in), 55 R/~{W}R (in), 56 ~{CNTRST}R (in), 57 CE1R (in), 58 ~{CE}0R (in), 59 NC, 60 NC, 61 NC, 62 NC, 63 GND (power), 64 NC, 65 NC, 66 A14R (in), 67 A13R (in), 68 A12R (in), 69 A11R (in), 70 A10R (in), 71 A9R (in), 72 A8R (in), 73 A7R (in), 74 NC, 75 NC, 76 NC, 77 NC, 78 A6R (in), 79 A5R (in), 80 A4R (in), 81 A3R (in), 82 A2R (in), 83 A1R (in), 84 A0R (in), 85 ~{CNTEN}R (in), 86 CLKR (in), 87 ~{ADS}R (in), 88 GND (power), 89 ~{ADS}L (in), 90 CLKL (in), 91 ~{CNTEN}L (in), 92 A0L (in), 93 A1L (in), 94 A2L (in), 95 A3L (in), 96 A4L (in), 97 A5L (in), 98 A6L (in), 99 NC, 100 NC

## CY7C09079V-12AC
designator U?
3.3V 32K x 8 Synchronous Dual-Port Static RAM; Published: 11-Dec-2002; LatestRevisionDate: 13-Apr-2006; LatestRevisionNote: IPC-7351 Footprint Added.; DatasheetVersion: 2-Feb-2001; PackageVersion: Mar-2001; PackageReference: A100; Publisher: Altium Limited; PackageDescription: 100-Pin Thin Quad Flat Pack 0.5 mm Pitch; ComponentLink1Description: Manufacturer Link; ComponentLink1URL: http://www.cypress.com/; ComponentLink2Description: Datasheet; ComponentLink2URL: http://www.cypress.com/portal/server.pt/gateway/PTARGS_0_2_1524_209_259_43/http%3B/sjapp20.mis.cypress.com%3B7001/publishedcontent/publish/design_resources/datasheets/contents/cy7c09079v_5.pdf
footprint A100_N (Thin QFP, 100-Leads, Body 14x14mm, Pitch 0.5mm, IPC Medium Density)
footprint A100_L (Thin QFP, 100-Leads, Body 14x14mm, Pitch 0.5mm, IPC High Density)
footprint A100_M (Thin QFP, 100-Leads, Body 14x14mm, Pitch 0.5mm, IPC Low Density)
3D model CY7C09079V-A100 (100-Pin Thin Quad Flat Pack 0.5 mm Pitch)
pins: 1 NC, 2 NC, 3 A7L (in), 4 A8L (in), 5 A9L (in), 6 A10L (in), 7 A11L (in), 8 A12L (in), 9 A13L (in), 10 A14L (in), 11 NC, 12 NC, 13 VCC (power), 14 NC, 15 NC, 16 NC, 17 NC, 18 ~{CE}0L (in), 19 CE1L (in), 20 ~{CNTRST}L (in), 21 R/~{W}L (in), 22 ~{OE}L (in), 23 ~{FT}/PIPEL (in), 24 NC, 25 NC, 26 GND (power), 27 NC, 28 I/O7L (io), 29 I/O6L (io), 30 I/O5L (io), 31 I/O4L (io), 32 I/O3L (io), 33 I/O2L (io), 34 GND (power), 35 I/O1L (io), 36 I/O0L (io), 37 VCC (power), 38 GND (power), 39 I/O0R (io), 40 I/O1R (io), 41 I/O2R (io), 42 VCC (power), 43 I/O3R (io), 44 I/O4R (io), 45 I/O5R (io), 46 I/O6R (io), 47 I/O7R (io), 48 NC, 49 NC, 50 NC, 51 NC, 52 GND (power), 53 ~{FT}/PIPER (in), 54 ~{OE}R (in), 55 R/~{W}R (in), 56 ~{CNTRST}R (in), 57 CE1R (in), 58 ~{CE}0R (in), 59 NC, 60 NC, 61 NC, 62 NC, 63 GND (power), 64 NC, 65 NC, 66 A14R (in), 67 A13R (in), 68 A12R (in), 69 A11R (in), 70 A10R (in), 71 A9R (in), 72 A8R (in), 73 A7R (in), 74 NC, 75 NC, 76 NC, 77 NC, 78 A6R (in), 79 A5R (in), 80 A4R (in), 81 A3R (in), 82 A2R (in), 83 A1R (in), 84 A0R (in), 85 ~{CNTEN}R (in), 86 CLKR (in), 87 ~{ADS}R (in), 88 GND (power), 89 ~{ADS}L (in), 90 CLKL (in), 91 ~{CNTEN}L (in), 92 A0L (in), 93 A1L (in), 94 A2L (in), 95 A3L (in), 96 A4L (in), 97 A5L (in), 98 A6L (in), 99 NC, 100 NC

## CY7C09089V-6AC
designator U?
3.3V 64K x 8 Synchronous Dual-Port Static RAM; Published: 11-Dec-2002; LatestRevisionDate: 13-Apr-2006; LatestRevisionNote: IPC-7351 Footprint Added.; DatasheetVersion: 2-Feb-2001; PackageVersion: Mar-2001; PackageReference: A100; Publisher: Altium Limited; PackageDescription: 100-Pin Thin Quad Flat Pack 0.5 mm Pitch; ComponentLink1Description: Manufacturer Link; ComponentLink1URL: http://www.cypress.com/; ComponentLink2Description: Datasheet; ComponentLink2URL: http://www.cypress.com/portal/server.pt/gateway/PTARGS_0_2_1524_209_259_43/http%3B/sjapp20.mis.cypress.com%3B7001/publishedcontent/publish/design_resources/datasheets/contents/cy7c09079v_5.pdf
footprint A100_N (Thin QFP, 100-Leads, Body 14x14mm, Pitch 0.5mm, IPC Medium Density)
footprint A100_L (Thin QFP, 100-Leads, Body 14x14mm, Pitch 0.5mm, IPC High Density)
footprint A100_M (Thin QFP, 100-Leads, Body 14x14mm, Pitch 0.5mm, IPC Low Density)
3D model CY7C09089V-A100 (100-Pin Thin Quad Flat Pack 0.5 mm Pitch)
pins: 1 NC, 2 NC, 3 A7L (in), 4 A8L (in), 5 A9L (in), 6 A10L (in), 7 A11L (in), 8 A12L (in), 9 A13L (in), 10 A14L (in), 11 A15L (in), 12 NC, 13 VCC (power), 14 NC, 15 NC, 16 NC, 17 NC, 18 ~{CE}0L (in), 19 CE1L (in), 20 ~{CNTRST}L (in), 21 R/~{W}L (in), 22 ~{OE}L (in), 23 ~{FT}/PIPEL (in), 24 NC, 25 NC, 26 GND (power), 27 NC, 28 I/O7L (io), 29 I/O6L (io), 30 I/O5L (io), 31 I/O4L (io), 32 I/O3L (io), 33 I/O2L (io), 34 GND (power), 35 I/O1L (io), 36 I/O0L (io), 37 VCC (power), 38 GND (power), 39 I/O0R (io), 40 I/O1R (io), 41 I/O2R (io), 42 VCC (power), 43 I/O3R (io), 44 I/O4R (io), 45 I/O5R (io), 46 I/O6R (io), 47 I/O7R (io), 48 NC, 49 NC, 50 NC, 51 NC, 52 GND (power), 53 ~{FT}/PIPER (in), 54 ~{OE}R (in), 55 R/~{W}R (in), 56 ~{CNTRST}R (in), 57 CE1R (in), 58 ~{CE}0R (in), 59 NC, 60 NC, 61 NC, 62 NC, 63 GND (power), 64 NC, 65 A15R (in), 66 A14R (in), 67 A13R (in), 68 A12R (in), 69 A11R (in), 70 A10R (in), 71 A9R (in), 72 A8R (in), 73 A7R (in), 74 NC, 75 NC, 76 NC, 77 NC, 78 A6R (in), 79 A5R (in), 80 A4R (in), 81 A3R (in), 82 A2R (in), 83 A1R (in), 84 A0R (in), 85 ~{CNTEN}R (in), 86 CLKR (in), 87 ~{ADS}R (in), 88 GND (power), 89 ~{ADS}L (in), 90 CLKL (in), 91 ~{CNTEN}L (in), 92 A0L (in), 93 A1L (in), 94 A2L (in), 95 A3L (in), 96 A4L (in), 97 A5L (in), 98 A6L (in), 99 NC, 100 NC

## CY7C09089V-7AC
designator U?
3.3V 64K x 8 Synchronous Dual-Port Static RAM; Published: 11-Dec-2002; LatestRevisionDate: 13-Apr-2006; LatestRevisionNote: IPC-7351 Footprint Added.; DatasheetVersion: 2-Feb-2001; PackageVersion: Mar-2001; PackageReference: A100; Publisher: Altium Limited; PackageDescription: 100-Pin Thin Quad Flat Pack 0.5 mm Pitch; ComponentLink1Description: Manufacturer Link; ComponentLink1URL: http://www.cypress.com/; ComponentLink2Description: Datasheet; ComponentLink2URL: http://www.cypress.com/portal/server.pt/gateway/PTARGS_0_2_1524_209_259_43/http%3B/sjapp20.mis.cypress.com%3B7001/publishedcontent/publish/design_resources/datasheets/contents/cy7c09079v_5.pdf
footprint A100_N (Thin QFP, 100-Leads, Body 14x14mm, Pitch 0.5mm, IPC Medium Density)
footprint A100_L (Thin QFP, 100-Leads, Body 14x14mm, Pitch 0.5mm, IPC High Density)
footprint A100_M (Thin QFP, 100-Leads, Body 14x14mm, Pitch 0.5mm, IPC Low Density)
3D model CY7C09089V-A100 (100-Pin Thin Quad Flat Pack 0.5 mm Pitch)
pins: 1 NC, 2 NC, 3 A7L (in), 4 A8L (in), 5 A9L (in), 6 A10L (in), 7 A11L (in), 8 A12L (in), 9 A13L (in), 10 A14L (in), 11 A15L (in), 12 NC, 13 VCC (power), 14 NC, 15 NC, 16 NC, 17 NC, 18 ~{CE}0L (in), 19 CE1L (in), 20 ~{CNTRST}L (in), 21 R/~{W}L (in), 22 ~{OE}L (in), 23 ~{FT}/PIPEL (in), 24 NC, 25 NC, 26 GND (power), 27 NC, 28 I/O7L (io), 29 I/O6L (io), 30 I/O5L (io), 31 I/O4L (io), 32 I/O3L (io), 33 I/O2L (io), 34 GND (power), 35 I/O1L (io), 36 I/O0L (io), 37 VCC (power), 38 GND (power), 39 I/O0R (io), 40 I/O1R (io), 41 I/O2R (io), 42 VCC (power), 43 I/O3R (io), 44 I/O4R (io), 45 I/O5R (io), 46 I/O6R (io), 47 I/O7R (io), 48 NC, 49 NC, 50 NC, 51 NC, 52 GND (power), 53 ~{FT}/PIPER (in), 54 ~{OE}R (in), 55 R/~{W}R (in), 56 ~{CNTRST}R (in), 57 CE1R (in), 58 ~{CE}0R (in), 59 NC, 60 NC, 61 NC, 62 NC, 63 GND (power), 64 NC, 65 A15R (in), 66 A14R (in), 67 A13R (in), 68 A12R (in), 69 A11R (in), 70 A10R (in), 71 A9R (in), 72 A8R (in), 73 A7R (in), 74 NC, 75 NC, 76 NC, 77 NC, 78 A6R (in), 79 A5R (in), 80 A4R (in), 81 A3R (in), 82 A2R (in), 83 A1R (in), 84 A0R (in), 85 ~{CNTEN}R (in), 86 CLKR (in), 87 ~{ADS}R (in), 88 GND (power), 89 ~{ADS}L (in), 90 CLKL (in), 91 ~{CNTEN}L (in), 92 A0L (in), 93 A1L (in), 94 A2L (in), 95 A3L (in), 96 A4L (in), 97 A5L (in), 98 A6L (in), 99 NC, 100 NC

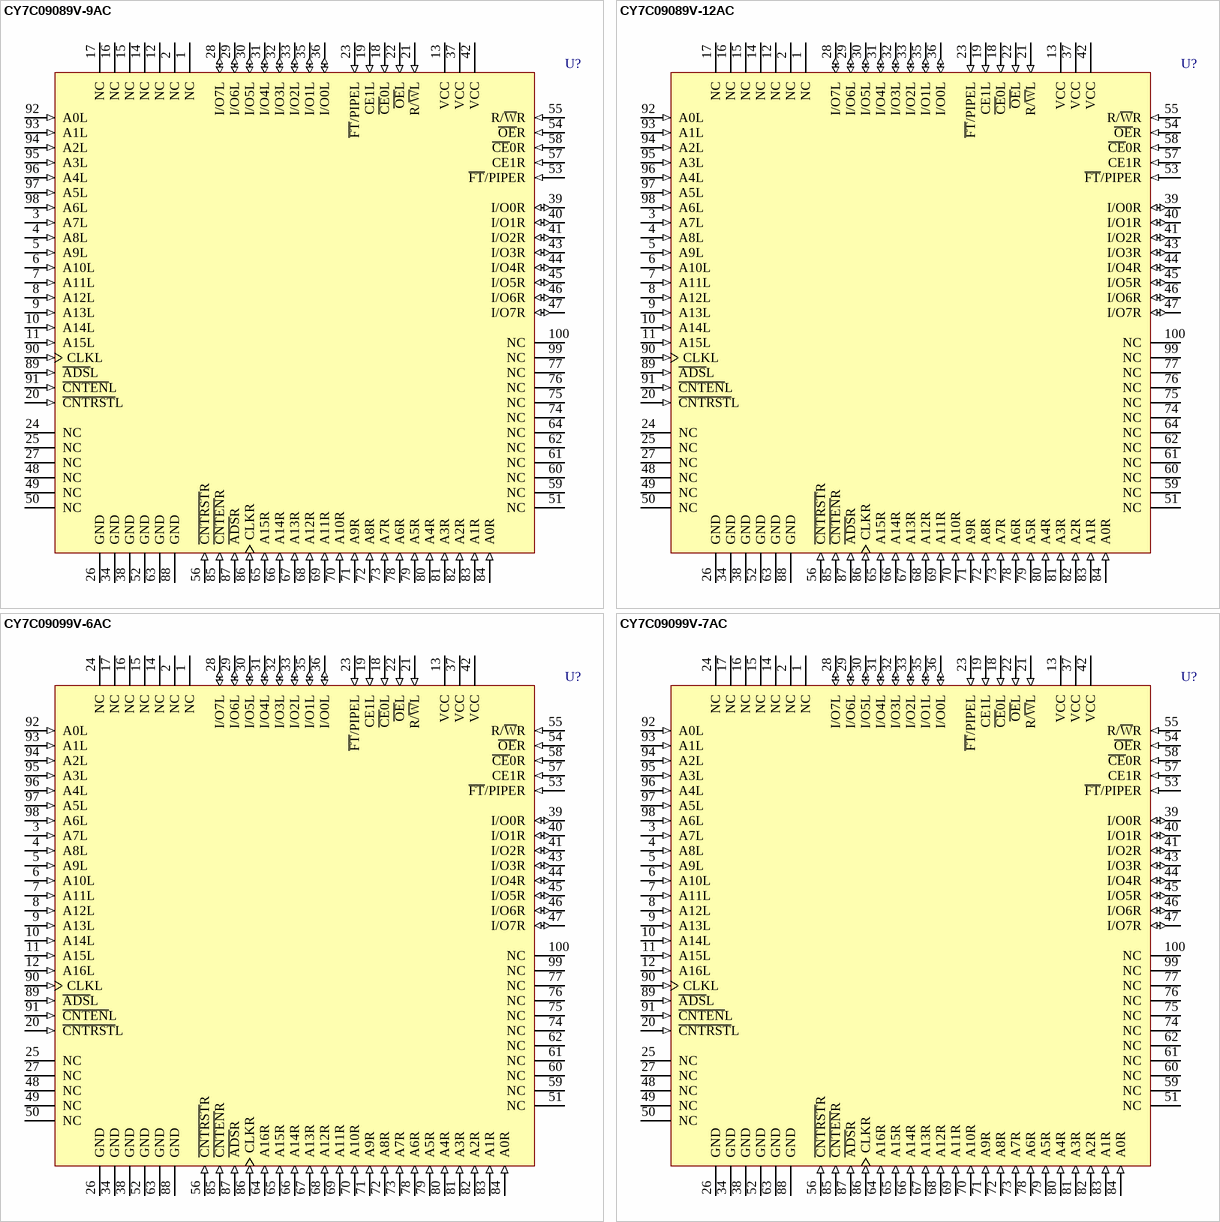
[diagram p10: symbols CY7C09089V-9AC to CY7C09099V-7AC]

## CY7C09089V-9AC
designator U?
3.3V 64K x 8 Synchronous Dual-Port Static RAM; Published: 11-Dec-2002; LatestRevisionDate: 13-Apr-2006; LatestRevisionNote: IPC-7351 Footprint Added.; DatasheetVersion: 2-Feb-2001; PackageVersion: Mar-2001; PackageReference: A100; Publisher: Altium Limited; PackageDescription: 100-Pin Thin Quad Flat Pack 0.5 mm Pitch; ComponentLink1Description: Manufacturer Link; ComponentLink1URL: http://www.cypress.com/; ComponentLink2Description: Datasheet; ComponentLink2URL: http://www.cypress.com/portal/server.pt/gateway/PTARGS_0_2_1524_209_259_43/http%3B/sjapp20.mis.cypress.com%3B7001/publishedcontent/publish/design_resources/datasheets/contents/cy7c09079v_5.pdf
footprint A100_N (Thin QFP, 100-Leads, Body 14x14mm, Pitch 0.5mm, IPC Medium Density)
footprint A100_L (Thin QFP, 100-Leads, Body 14x14mm, Pitch 0.5mm, IPC High Density)
footprint A100_M (Thin QFP, 100-Leads, Body 14x14mm, Pitch 0.5mm, IPC Low Density)
3D model CY7C09089V-A100 (100-Pin Thin Quad Flat Pack 0.5 mm Pitch)
pins: 1 NC, 2 NC, 3 A7L (in), 4 A8L (in), 5 A9L (in), 6 A10L (in), 7 A11L (in), 8 A12L (in), 9 A13L (in), 10 A14L (in), 11 A15L (in), 12 NC, 13 VCC (power), 14 NC, 15 NC, 16 NC, 17 NC, 18 ~{CE}0L (in), 19 CE1L (in), 20 ~{CNTRST}L (in), 21 R/~{W}L (in), 22 ~{OE}L (in), 23 ~{FT}/PIPEL (in), 24 NC, 25 NC, 26 GND (power), 27 NC, 28 I/O7L (io), 29 I/O6L (io), 30 I/O5L (io), 31 I/O4L (io), 32 I/O3L (io), 33 I/O2L (io), 34 GND (power), 35 I/O1L (io), 36 I/O0L (io), 37 VCC (power), 38 GND (power), 39 I/O0R (io), 40 I/O1R (io), 41 I/O2R (io), 42 VCC (power), 43 I/O3R (io), 44 I/O4R (io), 45 I/O5R (io), 46 I/O6R (io), 47 I/O7R (io), 48 NC, 49 NC, 50 NC, 51 NC, 52 GND (power), 53 ~{FT}/PIPER (in), 54 ~{OE}R (in), 55 R/~{W}R (in), 56 ~{CNTRST}R (in), 57 CE1R (in), 58 ~{CE}0R (in), 59 NC, 60 NC, 61 NC, 62 NC, 63 GND (power), 64 NC, 65 A15R (in), 66 A14R (in), 67 A13R (in), 68 A12R (in), 69 A11R (in), 70 A10R (in), 71 A9R (in), 72 A8R (in), 73 A7R (in), 74 NC, 75 NC, 76 NC, 77 NC, 78 A6R (in), 79 A5R (in), 80 A4R (in), 81 A3R (in), 82 A2R (in), 83 A1R (in), 84 A0R (in), 85 ~{CNTEN}R (in), 86 CLKR (in), 87 ~{ADS}R (in), 88 GND (power), 89 ~{ADS}L (in), 90 CLKL (in), 91 ~{CNTEN}L (in), 92 A0L (in), 93 A1L (in), 94 A2L (in), 95 A3L (in), 96 A4L (in), 97 A5L (in), 98 A6L (in), 99 NC, 100 NC

## CY7C09089V-12AC
designator U?
3.3V 64K x 8 Synchronous Dual-Port Static RAM; Published: 11-Dec-2002; LatestRevisionDate: 13-Apr-2006; LatestRevisionNote: IPC-7351 Footprint Added.; DatasheetVersion: 2-Feb-2001; PackageVersion: Mar-2001; PackageReference: A100; Publisher: Altium Limited; PackageDescription: 100-Pin Thin Quad Flat Pack 0.5 mm Pitch; ComponentLink1Description: Manufacturer Link; ComponentLink1URL: http://www.cypress.com/; ComponentLink2Description: Datasheet; ComponentLink2URL: http://www.cypress.com/portal/server.pt/gateway/PTARGS_0_2_1524_209_259_43/http%3B/sjapp20.mis.cypress.com%3B7001/publishedcontent/publish/design_resources/datasheets/contents/cy7c09079v_5.pdf
footprint A100_N (Thin QFP, 100-Leads, Body 14x14mm, Pitch 0.5mm, IPC Medium Density)
footprint A100_L (Thin QFP, 100-Leads, Body 14x14mm, Pitch 0.5mm, IPC High Density)
footprint A100_M (Thin QFP, 100-Leads, Body 14x14mm, Pitch 0.5mm, IPC Low Density)
3D model CY7C09089V-A100 (100-Pin Thin Quad Flat Pack 0.5 mm Pitch)
pins: 1 NC, 2 NC, 3 A7L (in), 4 A8L (in), 5 A9L (in), 6 A10L (in), 7 A11L (in), 8 A12L (in), 9 A13L (in), 10 A14L (in), 11 A15L (in), 12 NC, 13 VCC (power), 14 NC, 15 NC, 16 NC, 17 NC, 18 ~{CE}0L (in), 19 CE1L (in), 20 ~{CNTRST}L (in), 21 R/~{W}L (in), 22 ~{OE}L (in), 23 ~{FT}/PIPEL (in), 24 NC, 25 NC, 26 GND (power), 27 NC, 28 I/O7L (io), 29 I/O6L (io), 30 I/O5L (io), 31 I/O4L (io), 32 I/O3L (io), 33 I/O2L (io), 34 GND (power), 35 I/O1L (io), 36 I/O0L (io), 37 VCC (power), 38 GND (power), 39 I/O0R (io), 40 I/O1R (io), 41 I/O2R (io), 42 VCC (power), 43 I/O3R (io), 44 I/O4R (io), 45 I/O5R (io), 46 I/O6R (io), 47 I/O7R (io), 48 NC, 49 NC, 50 NC, 51 NC, 52 GND (power), 53 ~{FT}/PIPER (in), 54 ~{OE}R (in), 55 R/~{W}R (in), 56 ~{CNTRST}R (in), 57 CE1R (in), 58 ~{CE}0R (in), 59 NC, 60 NC, 61 NC, 62 NC, 63 GND (power), 64 NC, 65 A15R (in), 66 A14R (in), 67 A13R (in), 68 A12R (in), 69 A11R (in), 70 A10R (in), 71 A9R (in), 72 A8R (in), 73 A7R (in), 74 NC, 75 NC, 76 NC, 77 NC, 78 A6R (in), 79 A5R (in), 80 A4R (in), 81 A3R (in), 82 A2R (in), 83 A1R (in), 84 A0R (in), 85 ~{CNTEN}R (in), 86 CLKR (in), 87 ~{ADS}R (in), 88 GND (power), 89 ~{ADS}L (in), 90 CLKL (in), 91 ~{CNTEN}L (in), 92 A0L (in), 93 A1L (in), 94 A2L (in), 95 A3L (in), 96 A4L (in), 97 A5L (in), 98 A6L (in), 99 NC, 100 NC

## CY7C09099V-6AC
designator U?
3.3V 128K x 8 Synchronous Dual-Port Static RAM; Published: 11-Dec-2002; LatestRevisionDate: 13-Apr-2006; LatestRevisionNote: IPC-7351 Footprint Added.; DatasheetVersion: 2-Feb-2001; PackageVersion: Mar-2001; PackageReference: A100; Publisher: Altium Limited; PackageDescription: 100-Pin Thin Quad Flat Pack 0.5 mm Pitch; ComponentLink1Description: Manufacturer Link; ComponentLink1URL: http://www.cypress.com/; ComponentLink2Description: Datasheet; ComponentLink2URL: http://www.cypress.com/portal/server.pt/gateway/PTARGS_0_2_1524_209_259_43/http%3B/sjapp20.mis.cypress.com%3B7001/publishedcontent/publish/design_resources/datasheets/contents/cy7c09079v_5.pdf
footprint A100_N (Thin QFP, 100-Leads, Body 14x14mm, Pitch 0.5mm, IPC Medium Density)
footprint A100_L (Thin QFP, 100-Leads, Body 14x14mm, Pitch 0.5mm, IPC High Density)
footprint A100_M (Thin QFP, 100-Leads, Body 14x14mm, Pitch 0.5mm, IPC Low Density)
3D model CY7C09099V-A100 (100-Pin Thin Quad Flat Pack 0.5 mm Pitch)
pins: 1 NC, 2 NC, 3 A7L (in), 4 A8L (in), 5 A9L (in), 6 A10L (in), 7 A11L (in), 8 A12L (in), 9 A13L (in), 10 A14L (in), 11 A15L (in), 12 A16L (in), 13 VCC (power), 14 NC, 15 NC, 16 NC, 17 NC, 18 ~{CE}0L (in), 19 CE1L (in), 20 ~{CNTRST}L (in), 21 R/~{W}L (in), 22 ~{OE}L (in), 23 ~{FT}/PIPEL (in), 24 NC, 25 NC, 26 GND (power), 27 NC, 28 I/O7L (io), 29 I/O6L (io), 30 I/O5L (io), 31 I/O4L (io), 32 I/O3L (io), 33 I/O2L (io), 34 GND (power), 35 I/O1L (io), 36 I/O0L (io), 37 VCC (power), 38 GND (power), 39 I/O0R (io), 40 I/O1R (io), 41 I/O2R (io), 42 VCC (power), 43 I/O3R (io), 44 I/O4R (io), 45 I/O5R (io), 46 I/O6R (io), 47 I/O7R (io), 48 NC, 49 NC, 50 NC, 51 NC, 52 GND (power), 53 ~{FT}/PIPER (in), 54 ~{OE}R (in), 55 R/~{W}R (in), 56 ~{CNTRST}R (in), 57 CE1R (in), 58 ~{CE}0R (in), 59 NC, 60 NC, 61 NC, 62 NC, 63 GND (power), 64 A16R (in), 65 A15R (in), 66 A14R (in), 67 A13R (in), 68 A12R (in), 69 A11R (in), 70 A10R (in), 71 A9R (in), 72 A8R (in), 73 A7R (in), 74 NC, 75 NC, 76 NC, 77 NC, 78 A6R (in), 79 A5R (in), 80 A4R (in), 81 A3R (in), 82 A2R (in), 83 A1R (in), 84 A0R (in), 85 ~{CNTEN}R (in), 86 CLKR (in), 87 ~{ADS}R (in), 88 GND (power), 89 ~{ADS}L (in), 90 CLKL (in), 91 ~{CNTEN}L (in), 92 A0L (in), 93 A1L (in), 94 A2L (in), 95 A3L (in), 96 A4L (in), 97 A5L (in), 98 A6L (in), 99 NC, 100 NC

## CY7C09099V-7AC
designator U?
3.3V 128K x 8 Synchronous Dual-Port Static RAM; Published: 11-Dec-2002; LatestRevisionDate: 13-Apr-2006; LatestRevisionNote: IPC-7351 Footprint Added.; DatasheetVersion: 2-Feb-2001; PackageVersion: Mar-2001; PackageReference: A100; Publisher: Altium Limited; PackageDescription: 100-Pin Thin Quad Flat Pack 0.5 mm Pitch; ComponentLink1Description: Manufacturer Link; ComponentLink1URL: http://www.cypress.com/; ComponentLink2Description: Datasheet; ComponentLink2URL: http://www.cypress.com/portal/server.pt/gateway/PTARGS_0_2_1524_209_259_43/http%3B/sjapp20.mis.cypress.com%3B7001/publishedcontent/publish/design_resources/datasheets/contents/cy7c09079v_5.pdf
footprint A100_N (Thin QFP, 100-Leads, Body 14x14mm, Pitch 0.5mm, IPC Medium Density)
footprint A100_L (Thin QFP, 100-Leads, Body 14x14mm, Pitch 0.5mm, IPC High Density)
footprint A100_M (Thin QFP, 100-Leads, Body 14x14mm, Pitch 0.5mm, IPC Low Density)
3D model CY7C09099V-A100 (100-Pin Thin Quad Flat Pack 0.5 mm Pitch)
pins: 1 NC, 2 NC, 3 A7L (in), 4 A8L (in), 5 A9L (in), 6 A10L (in), 7 A11L (in), 8 A12L (in), 9 A13L (in), 10 A14L (in), 11 A15L (in), 12 A16L (in), 13 VCC (power), 14 NC, 15 NC, 16 NC, 17 NC, 18 ~{CE}0L (in), 19 CE1L (in), 20 ~{CNTRST}L (in), 21 R/~{W}L (in), 22 ~{OE}L (in), 23 ~{FT}/PIPEL (in), 24 NC, 25 NC, 26 GND (power), 27 NC, 28 I/O7L (io), 29 I/O6L (io), 30 I/O5L (io), 31 I/O4L (io), 32 I/O3L (io), 33 I/O2L (io), 34 GND (power), 35 I/O1L (io), 36 I/O0L (io), 37 VCC (power), 38 GND (power), 39 I/O0R (io), 40 I/O1R (io), 41 I/O2R (io), 42 VCC (power), 43 I/O3R (io), 44 I/O4R (io), 45 I/O5R (io), 46 I/O6R (io), 47 I/O7R (io), 48 NC, 49 NC, 50 NC, 51 NC, 52 GND (power), 53 ~{FT}/PIPER (in), 54 ~{OE}R (in), 55 R/~{W}R (in), 56 ~{CNTRST}R (in), 57 CE1R (in), 58 ~{CE}0R (in), 59 NC, 60 NC, 61 NC, 62 NC, 63 GND (power), 64 A16R (in), 65 A15R (in), 66 A14R (in), 67 A13R (in), 68 A12R (in), 69 A11R (in), 70 A10R (in), 71 A9R (in), 72 A8R (in), 73 A7R (in), 74 NC, 75 NC, 76 NC, 77 NC, 78 A6R (in), 79 A5R (in), 80 A4R (in), 81 A3R (in), 82 A2R (in), 83 A1R (in), 84 A0R (in), 85 ~{CNTEN}R (in), 86 CLKR (in), 87 ~{ADS}R (in), 88 GND (power), 89 ~{ADS}L (in), 90 CLKL (in), 91 ~{CNTEN}L (in), 92 A0L (in), 93 A1L (in), 94 A2L (in), 95 A3L (in), 96 A4L (in), 97 A5L (in), 98 A6L (in), 99 NC, 100 NC

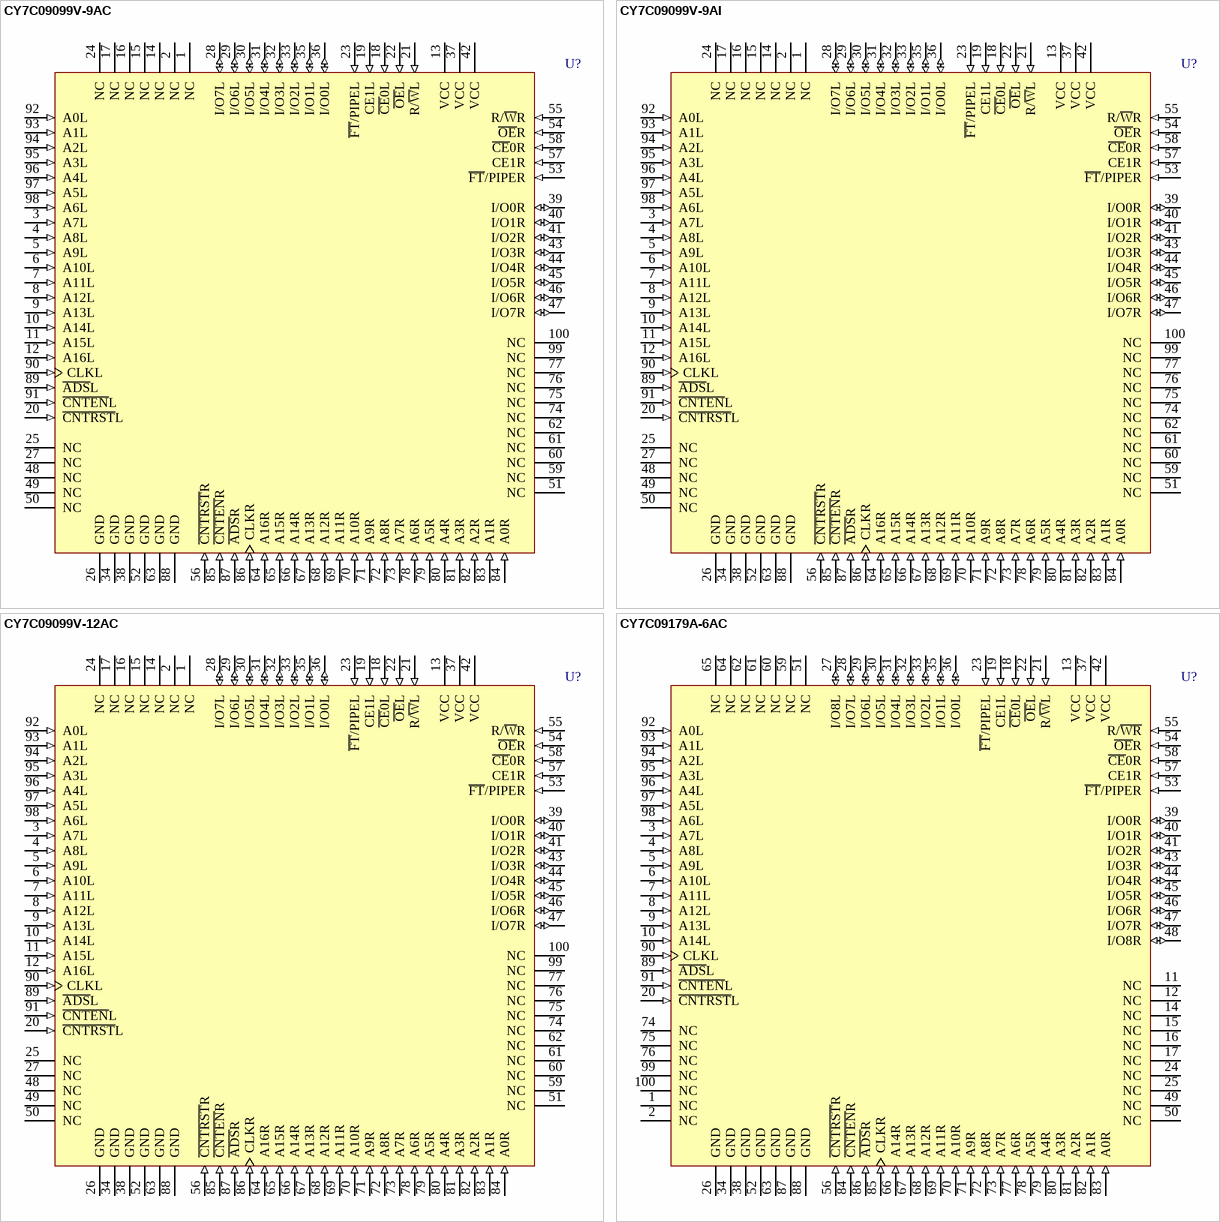
[diagram p11: symbols CY7C09099V-9AC to CY7C09179A-6AC]

## CY7C09099V-9AC
designator U?
3.3V 128K x 8 Synchronous Dual-Port Static RAM; Published: 11-Dec-2002; LatestRevisionDate: 13-Apr-2006; LatestRevisionNote: IPC-7351 Footprint Added.; DatasheetVersion: 2-Feb-2001; PackageVersion: Mar-2001; PackageReference: A100; Publisher: Altium Limited; PackageDescription: 100-Pin Thin Quad Flat Pack 0.5 mm Pitch; ComponentLink1Description: Manufacturer Link; ComponentLink1URL: http://www.cypress.com/; ComponentLink2Description: Datasheet; ComponentLink2URL: http://www.cypress.com/portal/server.pt/gateway/PTARGS_0_2_1524_209_259_43/http%3B/sjapp20.mis.cypress.com%3B7001/publishedcontent/publish/design_resources/datasheets/contents/cy7c09079v_5.pdf
footprint A100_N (Thin QFP, 100-Leads, Body 14x14mm, Pitch 0.5mm, IPC Medium Density)
footprint A100_L (Thin QFP, 100-Leads, Body 14x14mm, Pitch 0.5mm, IPC High Density)
footprint A100_M (Thin QFP, 100-Leads, Body 14x14mm, Pitch 0.5mm, IPC Low Density)
3D model CY7C09099V-A100 (100-Pin Thin Quad Flat Pack 0.5 mm Pitch)
pins: 1 NC, 2 NC, 3 A7L (in), 4 A8L (in), 5 A9L (in), 6 A10L (in), 7 A11L (in), 8 A12L (in), 9 A13L (in), 10 A14L (in), 11 A15L (in), 12 A16L (in), 13 VCC (power), 14 NC, 15 NC, 16 NC, 17 NC, 18 ~{CE}0L (in), 19 CE1L (in), 20 ~{CNTRST}L (in), 21 R/~{W}L (in), 22 ~{OE}L (in), 23 ~{FT}/PIPEL (in), 24 NC, 25 NC, 26 GND (power), 27 NC, 28 I/O7L (io), 29 I/O6L (io), 30 I/O5L (io), 31 I/O4L (io), 32 I/O3L (io), 33 I/O2L (io), 34 GND (power), 35 I/O1L (io), 36 I/O0L (io), 37 VCC (power), 38 GND (power), 39 I/O0R (io), 40 I/O1R (io), 41 I/O2R (io), 42 VCC (power), 43 I/O3R (io), 44 I/O4R (io), 45 I/O5R (io), 46 I/O6R (io), 47 I/O7R (io), 48 NC, 49 NC, 50 NC, 51 NC, 52 GND (power), 53 ~{FT}/PIPER (in), 54 ~{OE}R (in), 55 R/~{W}R (in), 56 ~{CNTRST}R (in), 57 CE1R (in), 58 ~{CE}0R (in), 59 NC, 60 NC, 61 NC, 62 NC, 63 GND (power), 64 A16R (in), 65 A15R (in), 66 A14R (in), 67 A13R (in), 68 A12R (in), 69 A11R (in), 70 A10R (in), 71 A9R (in), 72 A8R (in), 73 A7R (in), 74 NC, 75 NC, 76 NC, 77 NC, 78 A6R (in), 79 A5R (in), 80 A4R (in), 81 A3R (in), 82 A2R (in), 83 A1R (in), 84 A0R (in), 85 ~{CNTEN}R (in), 86 CLKR (in), 87 ~{ADS}R (in), 88 GND (power), 89 ~{ADS}L (in), 90 CLKL (in), 91 ~{CNTEN}L (in), 92 A0L (in), 93 A1L (in), 94 A2L (in), 95 A3L (in), 96 A4L (in), 97 A5L (in), 98 A6L (in), 99 NC, 100 NC

## CY7C09099V-9AI
designator U?
3.3V 128K x 8 Synchronous Dual-Port Static RAM; Published: 11-Dec-2002; LatestRevisionDate: 13-Apr-2006; LatestRevisionNote: IPC-7351 Footprint Added.; DatasheetVersion: 2-Feb-2001; PackageVersion: Mar-2001; PackageReference: A100; Publisher: Altium Limited; PackageDescription: 100-Pin Thin Quad Flat Pack 0.5 mm Pitch; ComponentLink1Description: Manufacturer Link; ComponentLink1URL: http://www.cypress.com/; ComponentLink2Description: Datasheet; ComponentLink2URL: http://www.cypress.com/portal/server.pt/gateway/PTARGS_0_2_1524_209_259_43/http%3B/sjapp20.mis.cypress.com%3B7001/publishedcontent/publish/design_resources/datasheets/contents/cy7c09079v_5.pdf
footprint A100_N (Thin QFP, 100-Leads, Body 14x14mm, Pitch 0.5mm, IPC Medium Density)
footprint A100_L (Thin QFP, 100-Leads, Body 14x14mm, Pitch 0.5mm, IPC High Density)
footprint A100_M (Thin QFP, 100-Leads, Body 14x14mm, Pitch 0.5mm, IPC Low Density)
3D model CY7C09099V-A100 (100-Pin Thin Quad Flat Pack 0.5 mm Pitch)
pins: 1 NC, 2 NC, 3 A7L (in), 4 A8L (in), 5 A9L (in), 6 A10L (in), 7 A11L (in), 8 A12L (in), 9 A13L (in), 10 A14L (in), 11 A15L (in), 12 A16L (in), 13 VCC (power), 14 NC, 15 NC, 16 NC, 17 NC, 18 ~{CE}0L (in), 19 CE1L (in), 20 ~{CNTRST}L (in), 21 R/~{W}L (in), 22 ~{OE}L (in), 23 ~{FT}/PIPEL (in), 24 NC, 25 NC, 26 GND (power), 27 NC, 28 I/O7L (io), 29 I/O6L (io), 30 I/O5L (io), 31 I/O4L (io), 32 I/O3L (io), 33 I/O2L (io), 34 GND (power), 35 I/O1L (io), 36 I/O0L (io), 37 VCC (power), 38 GND (power), 39 I/O0R (io), 40 I/O1R (io), 41 I/O2R (io), 42 VCC (power), 43 I/O3R (io), 44 I/O4R (io), 45 I/O5R (io), 46 I/O6R (io), 47 I/O7R (io), 48 NC, 49 NC, 50 NC, 51 NC, 52 GND (power), 53 ~{FT}/PIPER (in), 54 ~{OE}R (in), 55 R/~{W}R (in), 56 ~{CNTRST}R (in), 57 CE1R (in), 58 ~{CE}0R (in), 59 NC, 60 NC, 61 NC, 62 NC, 63 GND (power), 64 A16R (in), 65 A15R (in), 66 A14R (in), 67 A13R (in), 68 A12R (in), 69 A11R (in), 70 A10R (in), 71 A9R (in), 72 A8R (in), 73 A7R (in), 74 NC, 75 NC, 76 NC, 77 NC, 78 A6R (in), 79 A5R (in), 80 A4R (in), 81 A3R (in), 82 A2R (in), 83 A1R (in), 84 A0R (in), 85 ~{CNTEN}R (in), 86 CLKR (in), 87 ~{ADS}R (in), 88 GND (power), 89 ~{ADS}L (in), 90 CLKL (in), 91 ~{CNTEN}L (in), 92 A0L (in), 93 A1L (in), 94 A2L (in), 95 A3L (in), 96 A4L (in), 97 A5L (in), 98 A6L (in), 99 NC, 100 NC